# Altium schematic symbol library atmel.SCHLIB: 152 symbols (part 1 of 3)
Pins are listed as number, name and electrical type; pins without a type are passive.

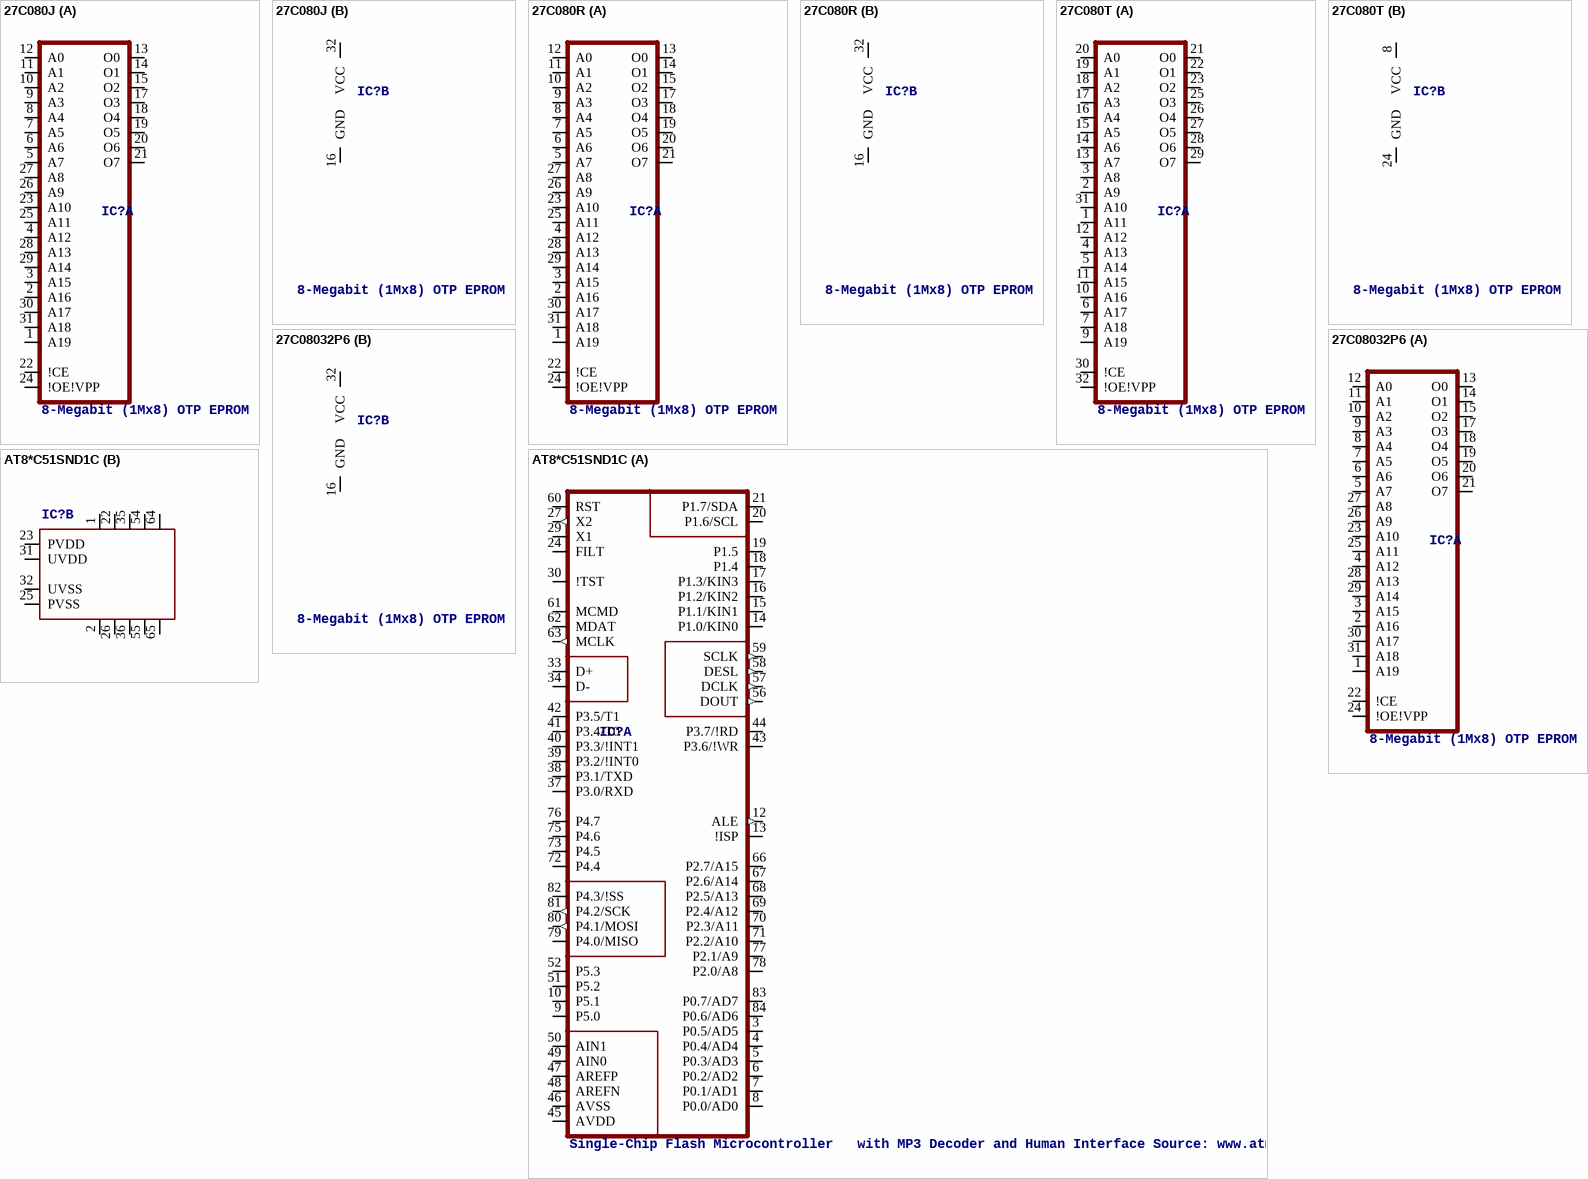
[diagram p0: symbols 27C080J to AT8*C51SND1C]

## 27C080J
designator IC?, comment 8-Megabit (1Mx8) OTP EPROM
MPN: AT27C080-90JU; OC_FARNELL: 1455025; OC_NEWARK: 58M3823
footprint PLCC32R
part A pins: 1 A19, 2 A16, 3 A15, 4 A12, 5 A7, 6 A6, 7 A5, 8 A4, 9 A3, 10 A2, 11 A1, 12 A0, 13 O0 (hiz), 14 O1 (hiz), 15 O2 (hiz), 17 O3 (hiz), 18 O4 (hiz), 19 O5 (hiz), 20 O6 (hiz), 21 O7 (hiz), 22 !CE, 23 A10, 24 !OE!VPP, 25 A11, 26 A9, 27 A8, 28 A13, 29 A14, 30 A17, 31 A18
part B pins: 16 GND (power), 32 VCC (power)

## 27C080R
designator IC?, comment 8-Megabit (1Mx8) OTP EPROM
OC_FARNELL: unknown; OC_NEWARK: unknown
footprint SO32X
part A pins: 1 A19, 2 A16, 3 A15, 4 A12, 5 A7, 6 A6, 7 A5, 8 A4, 9 A3, 10 A2, 11 A1, 12 A0, 13 O0 (hiz), 14 O1 (hiz), 15 O2 (hiz), 17 O3 (hiz), 18 O4 (hiz), 19 O5 (hiz), 20 O6 (hiz), 21 O7 (hiz), 22 !CE, 23 A10, 24 !OE!VPP, 25 A11, 26 A9, 27 A8, 28 A13, 29 A14, 30 A17, 31 A18
part B pins: 16 GND (power), 32 VCC (power)

## 27C080T
designator IC?, comment 8-Megabit (1Mx8) OTP EPROM
OC_FARNELL: unknown; OC_NEWARK: unknown
footprint TSOP32
part A pins: 1 A11, 2 A9, 3 A8, 4 A13, 5 A14, 6 A17, 7 A18, 9 A19, 10 A16, 11 A15, 12 A12, 13 A7, 14 A6, 15 A5, 16 A4, 17 A3, 18 A2, 19 A1, 20 A0, 21 O0 (hiz), 22 O1 (hiz), 23 O2 (hiz), 25 O3 (hiz), 26 O4 (hiz), 27 O5 (hiz), 28 O6 (hiz), 29 O7 (hiz), 30 !CE, 31 A10, 32 !OE!VPP
part B pins: 8 VCC (power), 24 GND (power)

## 27C08032P6
designator IC?, comment 8-Megabit (1Mx8) OTP EPROM
MPN: AT27C080-90PU; OC_FARNELL: 1455026; OC_NEWARK: 58M3824
footprint DIL32
part A pins: 1 A19, 2 A16, 3 A15, 4 A12, 5 A7, 6 A6, 7 A5, 8 A4, 9 A3, 10 A2, 11 A1, 12 A0, 13 O0 (hiz), 14 O1 (hiz), 15 O2 (hiz), 17 O3 (hiz), 18 O4 (hiz), 19 O5 (hiz), 20 O6 (hiz), 21 O7 (hiz), 22 !CE, 23 A10, 24 !OE!VPP, 25 A11, 26 A9, 27 A8, 28 A13, 29 A14, 30 A17, 31 A18
part B pins: 16 GND (power), 32 VCC (power)

## AT8*C51SND1C
designator IC?, comment Single-Chip Flash Microcontroller   with MP3 Decoder and Human Interface Source: www.atmel.com .. doc4109.pdf
OC_FARNELL: unknown; OC_NEWARK: unknown; OC_FARNELL: 1095728
footprint PLCC84
part A pins: 3 P0.5/AD5, 4 P0.4/AD4, 5 P0.3/AD3, 6 P0.2/AD2, 7 P0.1/AD1, 8 P0.0/AD0, 9 P5.0, 10 P5.1, 12 ALE (out), 13 !ISP, 14 P1.0/KIN0, 15 P1.1/KIN1, 16 P1.2/KIN2, 17 P1.3/KIN3, 18 P1.4, 19 P1.5, 20 P1.6/SCL, 21 P1.7/SDA, 24 FILT, 27 X2 (out), 29 X1, 30 !TST, 33 D+, 34 D-, 37 P3.0/RXD, 38 P3.1/TXD, 39 P3.2/!INT0, 40 P3.3/!INT1, 41 P3.4/T0, 42 P3.5/T1, 43 P3.6/!WR, 44 P3.7/!RD, 45 AVDD (power), 46 AVSS (power), 47 AREFP, 48 AREFN, 49 AIN0, 50 AIN1, 51 P5.2, 52 P5.3, 56 DOUT (out), 57 DCLK (out), 58 DESL (out), 59 SCLK (out), 60 RST, 61 MCMD, 62 MDAT, 63 MCLK (out), 66 P2.7/A15, 67 P2.6/A14, 68 P2.5/A13, 69 P2.4/A12, 70 P2.3/A11, 71 P2.2/A10, 72 P4.4, 73 P4.5, 75 P4.6, 76 P4.7, 77 P2.1/A9, 78 P2.0/A8, 79 P4.0/MISO, 80 P4.1/MOSI (out), 81 P4.2/SCK (out), 82 P4.3/!SS, 83 P0.7/AD7, 84 P0.6/AD6
part B pins: 1 VDD@1 (power), 2 VSS@1 (power), 22 VDD@2 (power), 23 PVDD (power), 25 PVSS (power), 26 VSS@2 (power), 31 UVDD (power), 32 UVSS (power), 35 VDD@3 (power), 36 VSS@3 (power), 54 VDD@4 (power), 55 VSS@4 (power), 64 VDD@5 (power), 65 VSS@5 (power)

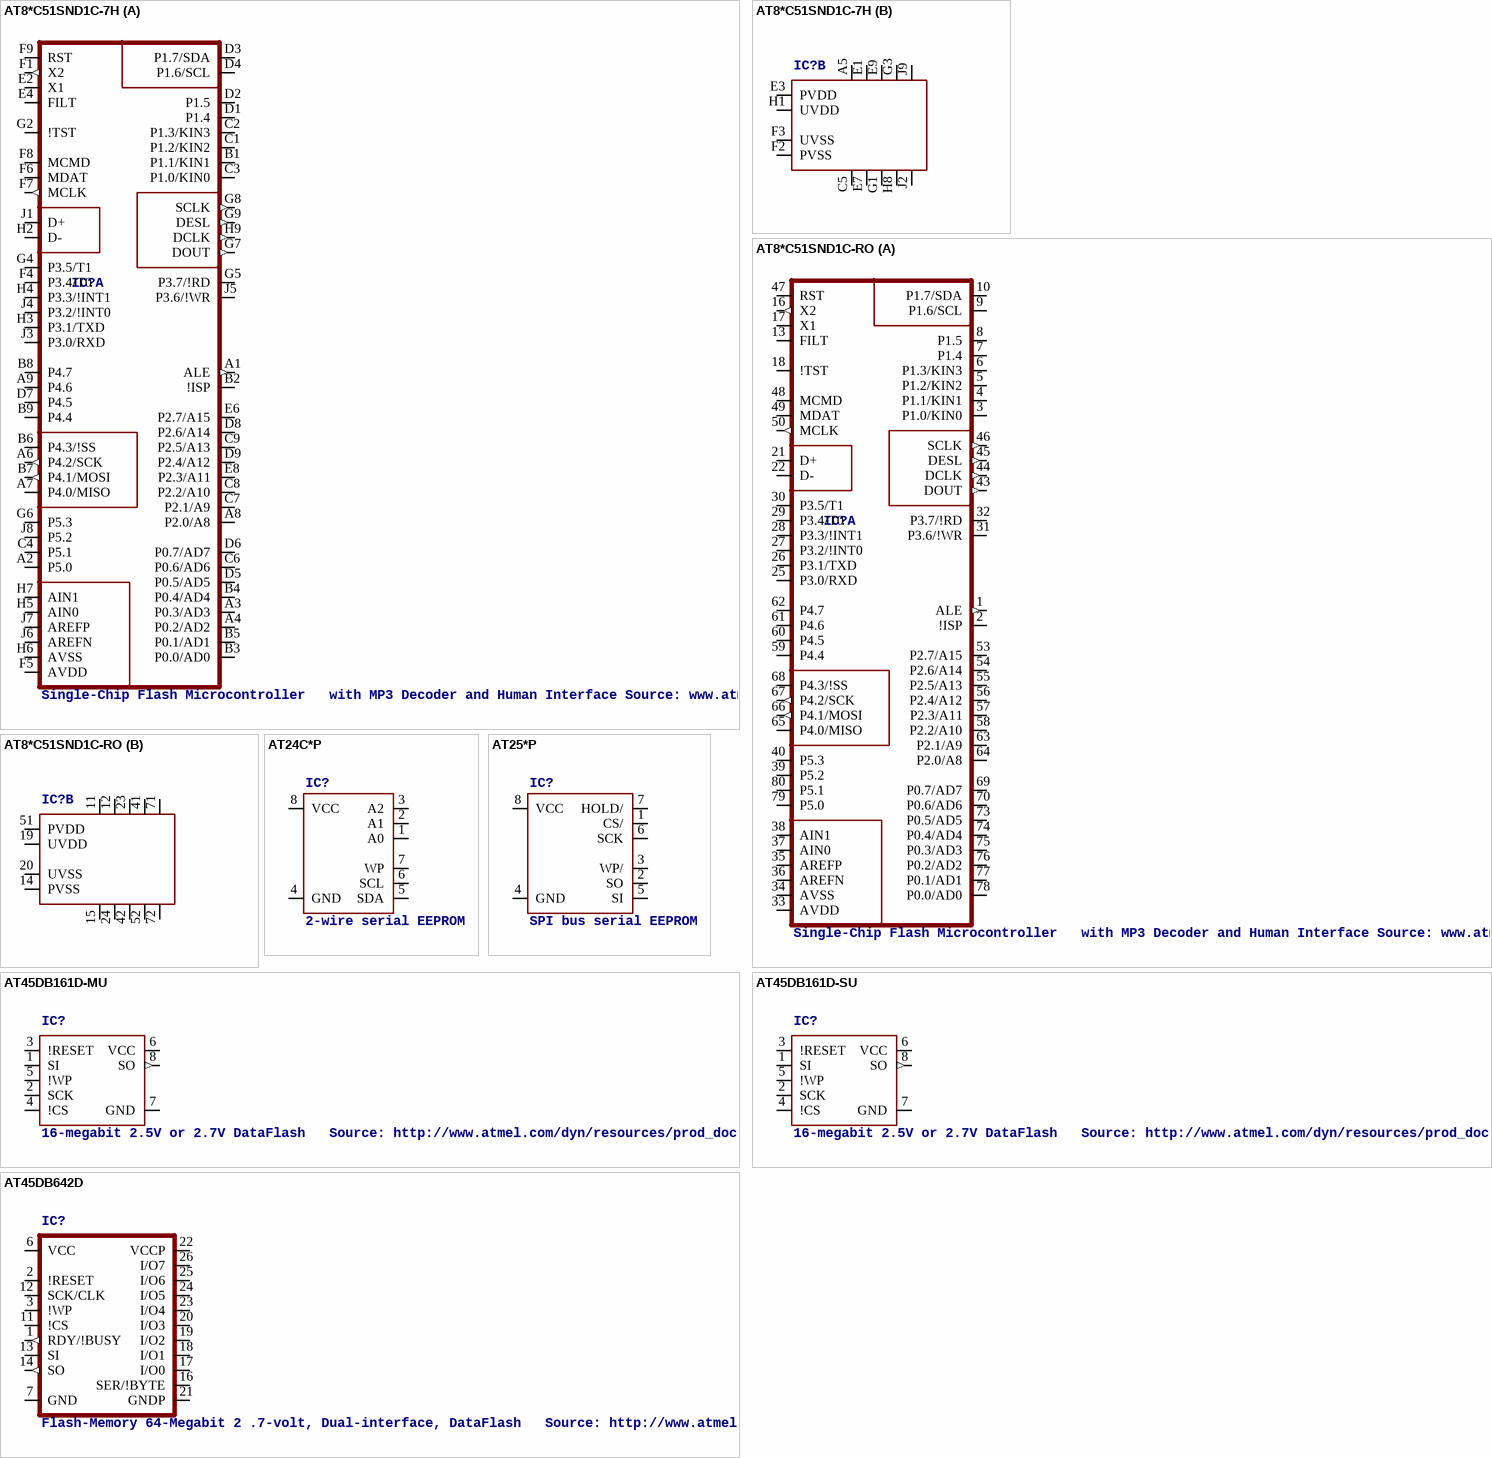
[diagram p1: symbols AT8*C51SND1C-7H to AT45DB642D]

## AT8*C51SND1C-7H
designator IC?, comment Single-Chip Flash Microcontroller   with MP3 Decoder and Human Interface Source: www.atmel.com .. doc4109.pdf
OC_FARNELL: unknown; OC_NEWARK: unknown
footprint BGA81
part A pins: A1 ALE (out), A2 P5.0, A3 P0.3/AD3, A4 P0.2/AD2, A6 P4.2/SCK (out), A7 P4.0/MISO, A8 P2.0/A8, A9 P4.6, B1 P1.1/KIN1, B2 !ISP, B3 P0.0/AD0, B4 P0.4/AD4, B5 P0.1/AD1, B6 P4.3/!SS, B7 P4.1/MOSI (out), B8 P4.7, B9 P4.4, C1 P1.2/KIN2, C2 P1.3/KIN3, C3 P1.0/KIN0, C4 P5.1, C6 P0.6/AD6, C7 P2.1/A9, C8 P2.2/A10, C9 P2.5/A13, D1 P1.4, D2 P1.5, D3 P1.7/SDA, D4 P1.6/SCL, D5 P0.5/AD5, D6 P0.7/AD7, D7 P4.5, D8 P2.6/A14, D9 P2.4/A12, E2 X1, E4 FILT, E6 P2.7/A15, E8 P2.3/A11, F1 X2 (out), F4 P3.4/T0, F5 AVDD (power), F6 MDAT, F7 MCLK (out), F8 MCMD, F9 RST, G2 !TST, G4 P3.5/T1, G5 P3.7/!RD, G6 P5.3, G7 DOUT (out), G8 SCLK (out), G9 DESL (out), H2 D-, H3 P3.1/TXD, H4 P3.3/!INT1, H5 AIN0, H6 AVSS (power), H7 AIN1, H9 DCLK (out), J1 D+, J3 P3.0/RXD, J4 P3.2/!INT0, J5 P3.6/!WR, J6 AREFN, J7 AREFP, J8 P5.2
part B pins: A5 VDD@1 (power), C5 VSS@1 (power), E1 VDD@2 (power), E3 PVDD (power), E7 VSS@2 (power), E9 VDD@3 (power), F2 PVSS (power), F3 UVSS (power), G1 VSS@3 (power), G3 VDD@4 (power), H1 UVDD (power), H8 VSS@4 (power), J2 VSS@5 (power), J9 VDD@5 (power)

## AT8*C51SND1C-RO
designator IC?, comment Single-Chip Flash Microcontroller   with MP3 Decoder and Human Interface Source: www.atmel.com .. doc4109.pdf
OC_FARNELL: unknown; OC_NEWARK: unknown; OC_FARNELL: 1095728
footprint TQFP80
part A pins: 1 ALE (out), 2 !ISP, 3 P1.0/KIN0, 4 P1.1/KIN1, 5 P1.2/KIN2, 6 P1.3/KIN3, 7 P1.4, 8 P1.5, 9 P1.6/SCL, 10 P1.7/SDA, 13 FILT, 16 X2 (out), 17 X1, 18 !TST, 21 D+, 22 D-, 25 P3.0/RXD, 26 P3.1/TXD, 27 P3.2/!INT0, 28 P3.3/!INT1, 29 P3.4/T0, 30 P3.5/T1, 31 P3.6/!WR, 32 P3.7/!RD, 33 AVDD (power), 34 AVSS (power), 35 AREFP, 36 AREFN, 37 AIN0, 38 AIN1, 39 P5.2, 40 P5.3, 43 DOUT (out), 44 DCLK (out), 45 DESL (out), 46 SCLK (out), 47 RST, 48 MCMD, 49 MDAT, 50 MCLK (out), 53 P2.7/A15, 54 P2.6/A14, 55 P2.5/A13, 56 P2.4/A12, 57 P2.3/A11, 58 P2.2/A10, 59 P4.4, 60 P4.5, 61 P4.6, 62 P4.7, 63 P2.1/A9, 64 P2.0/A8, 65 P4.0/MISO, 66 P4.1/MOSI (out), 67 P4.2/SCK (out), 68 P4.3/!SS, 69 P0.7/AD7, 70 P0.6/AD6, 73 P0.5/AD5, 74 P0.4/AD4, 75 P0.3/AD3, 76 P0.2/AD2, 77 P0.1/AD1, 78 P0.0/AD0, 79 P5.0, 80 P5.1
part B pins: 11 VDD@1 (power), 12 VDD@2 (power), 14 PVSS (power), 15 VSS@1 (power), 19 UVDD (power), 20 UVSS (power), 23 VDD@3 (power), 24 VSS@2 (power), 41 VDD@4 (power), 42 VSS@3 (power), 51 PVDD (power), 52 VSS@4 (power), 71 VDD@5 (power), 72 VSS@5 (power)

## AT24C*P
designator IC?, comment 2-wire serial EEPROM
MPN: AT24C1024BW-SH-B; OC_FARNELL: 1362646; OC_NEWARK: 03P2044
footprint DIL08
pins: 1 A0, 2 A1, 3 A2, 4 GND (power), 5 SDA, 6 SCL, 7 WP, 8 VCC (power)

## AT25*P
designator IC?, comment SPI bus serial EEPROM
MPN: CAT25040LI-G; OC_FARNELL: 1718045; OC_NEWARK: 06R0588
footprint DIL08
pins: 1 CS/, 2 SO, 3 WP/, 4 GND (power), 5 SI, 6 SCK, 7 HOLD/, 8 VCC (power)

## AT45DB161D-MU
designator IC?, comment 16-megabit 2.5V or 2.7V DataFlash   Source: http://www.atmel.com/dyn/resources/prod_documents/doc3500.pdf
MPN: AT45DB161D-SU; MF: ATMEL; OC_FARNELL: 1455040
footprint VDFN-8
pins: 1 SI, 2 SCK, 3 !RESET, 4 !CS, 5 !WP, 6 VCC (power), 7 GND (power), 8 SO (out)

## AT45DB161D-SU
designator IC?, comment 16-megabit 2.5V or 2.7V DataFlash   Source: http://www.atmel.com/dyn/resources/prod_documents/doc3500.pdf
MPN: AT45DB161D-SU; MF: ATMEL; OC_FARNELL: 1455040
footprint 8S2
pins: 1 SI, 2 SCK, 3 !RESET, 4 !CS, 5 !WP, 6 VCC (power), 7 GND (power), 8 SO (out)

## AT45DB642D
designator IC?, comment Flash-Memory 64-Megabit 2 .7-volt, Dual-interface, DataFlash   Source: http://www.atmel.com/dyn/resources/prod_documents/doc3542.pdf
MPN: AT45DB642D-TU; OC_FARNELL: 1095799; OC_NEWARK: 51P1801
footprint 28T-TSOP-1
pins: 1 RDY/!BUSY (out), 2 !RESET, 3 !WP, 6 VCC (power), 7 GND (power), 11 !CS, 12 SCK/CLK, 13 SI, 14 SO (out), 16 SER/!BYTE, 17 I/O0, 18 I/O1, 19 I/O2, 20 I/O3, 21 GNDP (power), 22 VCCP (power), 23 I/O4, 24 I/O5, 25 I/O6, 26 I/O7

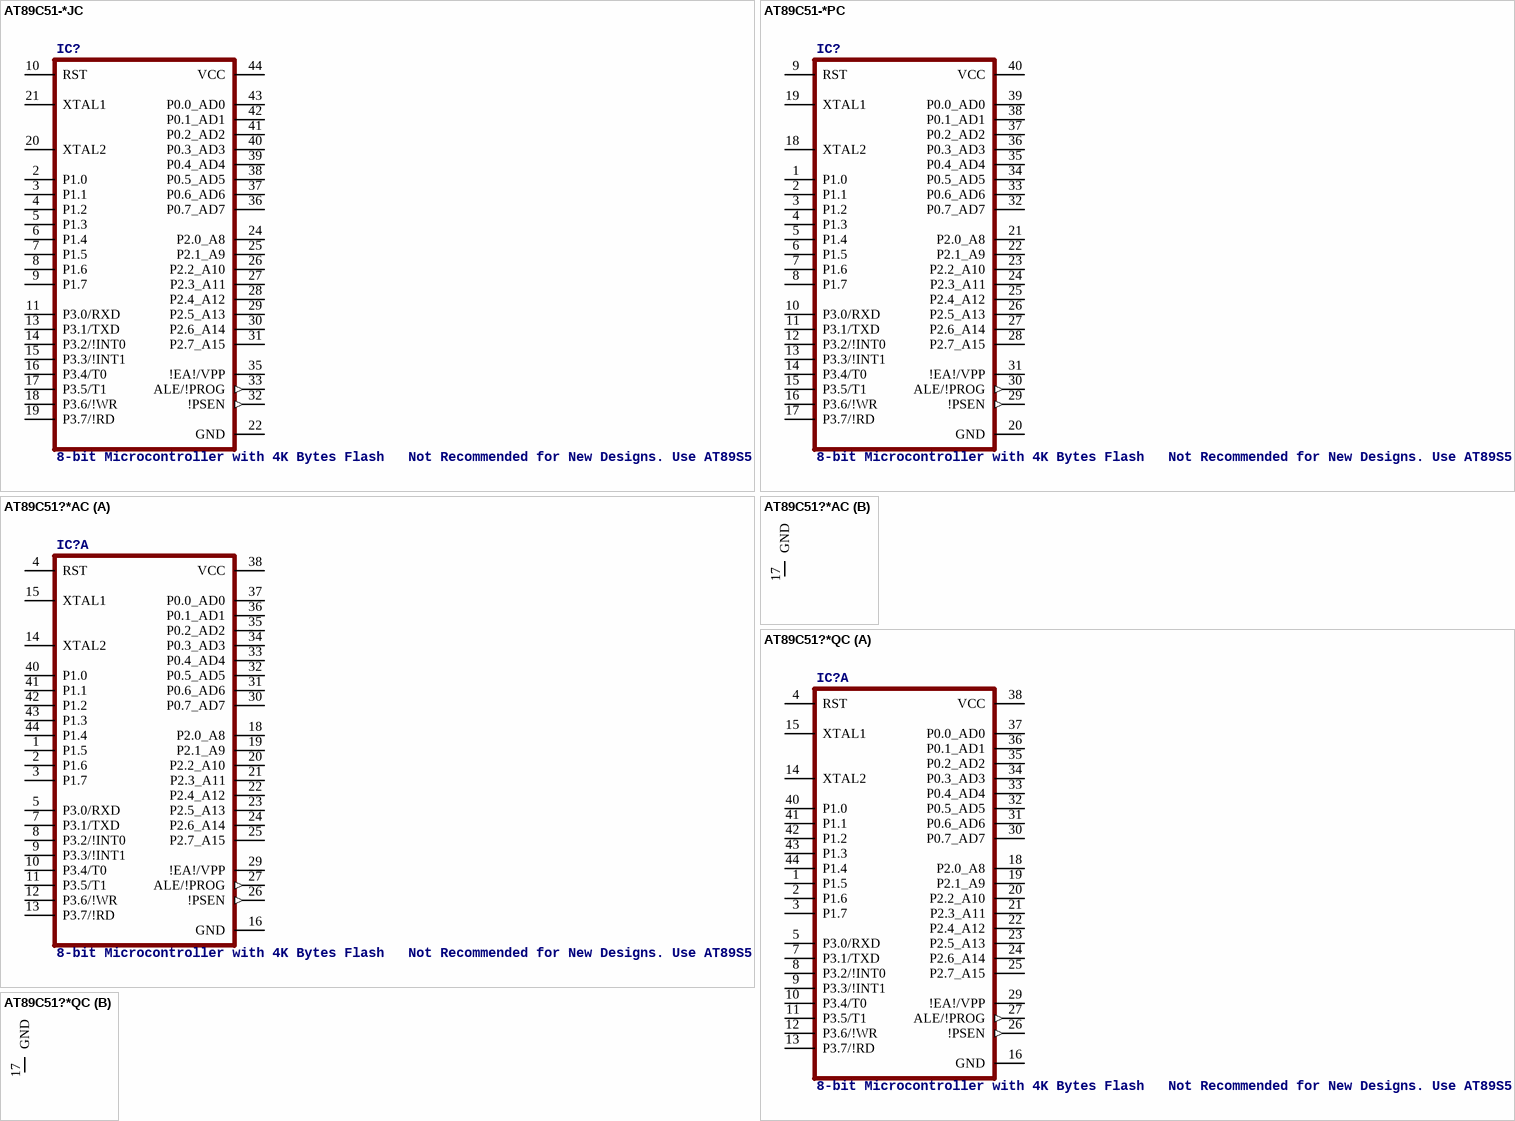
[diagram p2: symbols AT89C51-*JC to AT89C51?*QC]

## AT89C51-*JC
designator IC?, comment 8-bit Microcontroller with 4K Bytes Flash   Not Recommended for New Designs. Use AT89S51. Source: http://www.atmel.com/dyn/resources/prod_documents/doc0265.
MPN: AT89C51ED2-SLSUM; MPN: AT89C51RE2-SLSUM; MPN: AT89C51ED2-RLTUM; OC_FARNELL: 1095722; OC_NEWARK: 78K5790; OC_FARNELL: 1455062; OC_NEWARK: 58M3857; OC_FARNELL: 1095726; OC_NEWARK: 51P1802
footprint PLCC44
pins: 2 P1.0, 3 P1.1, 4 P1.2, 5 P1.3, 6 P1.4, 7 P1.5, 8 P1.6, 9 P1.7, 10 RST, 11 P3.0/RXD, 13 P3.1/TXD, 14 P3.2/!INT0, 15 P3.3/!INT1, 16 P3.4/T0, 17 P3.5/T1, 18 P3.6/!WR, 19 P3.7/!RD, 20 XTAL2, 21 XTAL1, 22 GND (power), 24 P2.0_A8, 25 P2.1_A9, 26 P2.2_A10, 27 P2.3_A11, 28 P2.4_A12, 29 P2.5_A13, 30 P2.6_A14, 31 P2.7_A15, 32 !PSEN (out), 33 ALE/!PROG (out), 35 !EA!/VPP, 36 P0.7_AD7, 37 P0.6_AD6, 38 P0.5_AD5, 39 P0.4_AD4, 40 P0.3_AD3, 41 P0.2_AD2, 42 P0.1_AD1, 43 P0.0_AD0, 44 VCC (power)

## AT89C51-*PC
designator IC?, comment 8-bit Microcontroller with 4K Bytes Flash   Not Recommended for New Designs. Use AT89S51. Source: http://www.atmel.com/dyn/resources/prod_documents/doc0265.
OC_FARNELL: unknown; OC_NEWARK: unknown
footprint DIL40
pins: 1 P1.0, 2 P1.1, 3 P1.2, 4 P1.3, 5 P1.4, 6 P1.5, 7 P1.6, 8 P1.7, 9 RST, 10 P3.0/RXD, 11 P3.1/TXD, 12 P3.2/!INT0, 13 P3.3/!INT1, 14 P3.4/T0, 15 P3.5/T1, 16 P3.6/!WR, 17 P3.7/!RD, 18 XTAL2, 19 XTAL1, 20 GND (power), 21 P2.0_A8, 22 P2.1_A9, 23 P2.2_A10, 24 P2.3_A11, 25 P2.4_A12, 26 P2.5_A13, 27 P2.6_A14, 28 P2.7_A15, 29 !PSEN (out), 30 ALE/!PROG (out), 31 !EA!/VPP, 32 P0.7_AD7, 33 P0.6_AD6, 34 P0.5_AD5, 35 P0.4_AD4, 36 P0.3_AD3, 37 P0.2_AD2, 38 P0.1_AD1, 39 P0.0_AD0, 40 VCC (power)

## AT89C51?*AC
designator IC?, comment 8-bit Microcontroller with 4K Bytes Flash   Not Recommended for New Designs. Use AT89S51. Source: http://www.atmel.com/dyn/resources/prod_documents/doc0265.
OC_FARNELL: unknown; OC_NEWARK: unknown
footprint TQFP44
part A pins: 1 P1.5, 2 P1.6, 3 P1.7, 4 RST, 5 P3.0/RXD, 7 P3.1/TXD, 8 P3.2/!INT0, 9 P3.3/!INT1, 10 P3.4/T0, 11 P3.5/T1, 12 P3.6/!WR, 13 P3.7/!RD, 14 XTAL2, 15 XTAL1, 16 GND (power), 18 P2.0_A8, 19 P2.1_A9, 20 P2.2_A10, 21 P2.3_A11, 22 P2.4_A12, 23 P2.5_A13, 24 P2.6_A14, 25 P2.7_A15, 26 !PSEN (out), 27 ALE/!PROG (out), 29 !EA!/VPP, 30 P0.7_AD7, 31 P0.6_AD6, 32 P0.5_AD5, 33 P0.4_AD4, 34 P0.3_AD3, 35 P0.2_AD2, 36 P0.1_AD1, 37 P0.0_AD0, 38 VCC (power), 40 P1.0, 41 P1.1, 42 P1.2, 43 P1.3, 44 P1.4
part B pins: 17 GND (power)

## AT89C51?*QC
designator IC?, comment 8-bit Microcontroller with 4K Bytes Flash   Not Recommended for New Designs. Use AT89S51. Source: http://www.atmel.com/dyn/resources/prod_documents/doc0265.
OC_FARNELL: unknown; OC_NEWARK: unknown
footprint PQFP44
part A pins: 1 P1.5, 2 P1.6, 3 P1.7, 4 RST, 5 P3.0/RXD, 7 P3.1/TXD, 8 P3.2/!INT0, 9 P3.3/!INT1, 10 P3.4/T0, 11 P3.5/T1, 12 P3.6/!WR, 13 P3.7/!RD, 14 XTAL2, 15 XTAL1, 16 GND (power), 18 P2.0_A8, 19 P2.1_A9, 20 P2.2_A10, 21 P2.3_A11, 22 P2.4_A12, 23 P2.5_A13, 24 P2.6_A14, 25 P2.7_A15, 26 !PSEN (out), 27 ALE/!PROG (out), 29 !EA!/VPP, 30 P0.7_AD7, 31 P0.6_AD6, 32 P0.5_AD5, 33 P0.4_AD4, 34 P0.3_AD3, 35 P0.2_AD2, 36 P0.1_AD1, 37 P0.0_AD0, 38 VCC (power), 40 P1.0, 41 P1.1, 42 P1.2, 43 P1.3, 44 P1.4
part B pins: 17 GND (power)

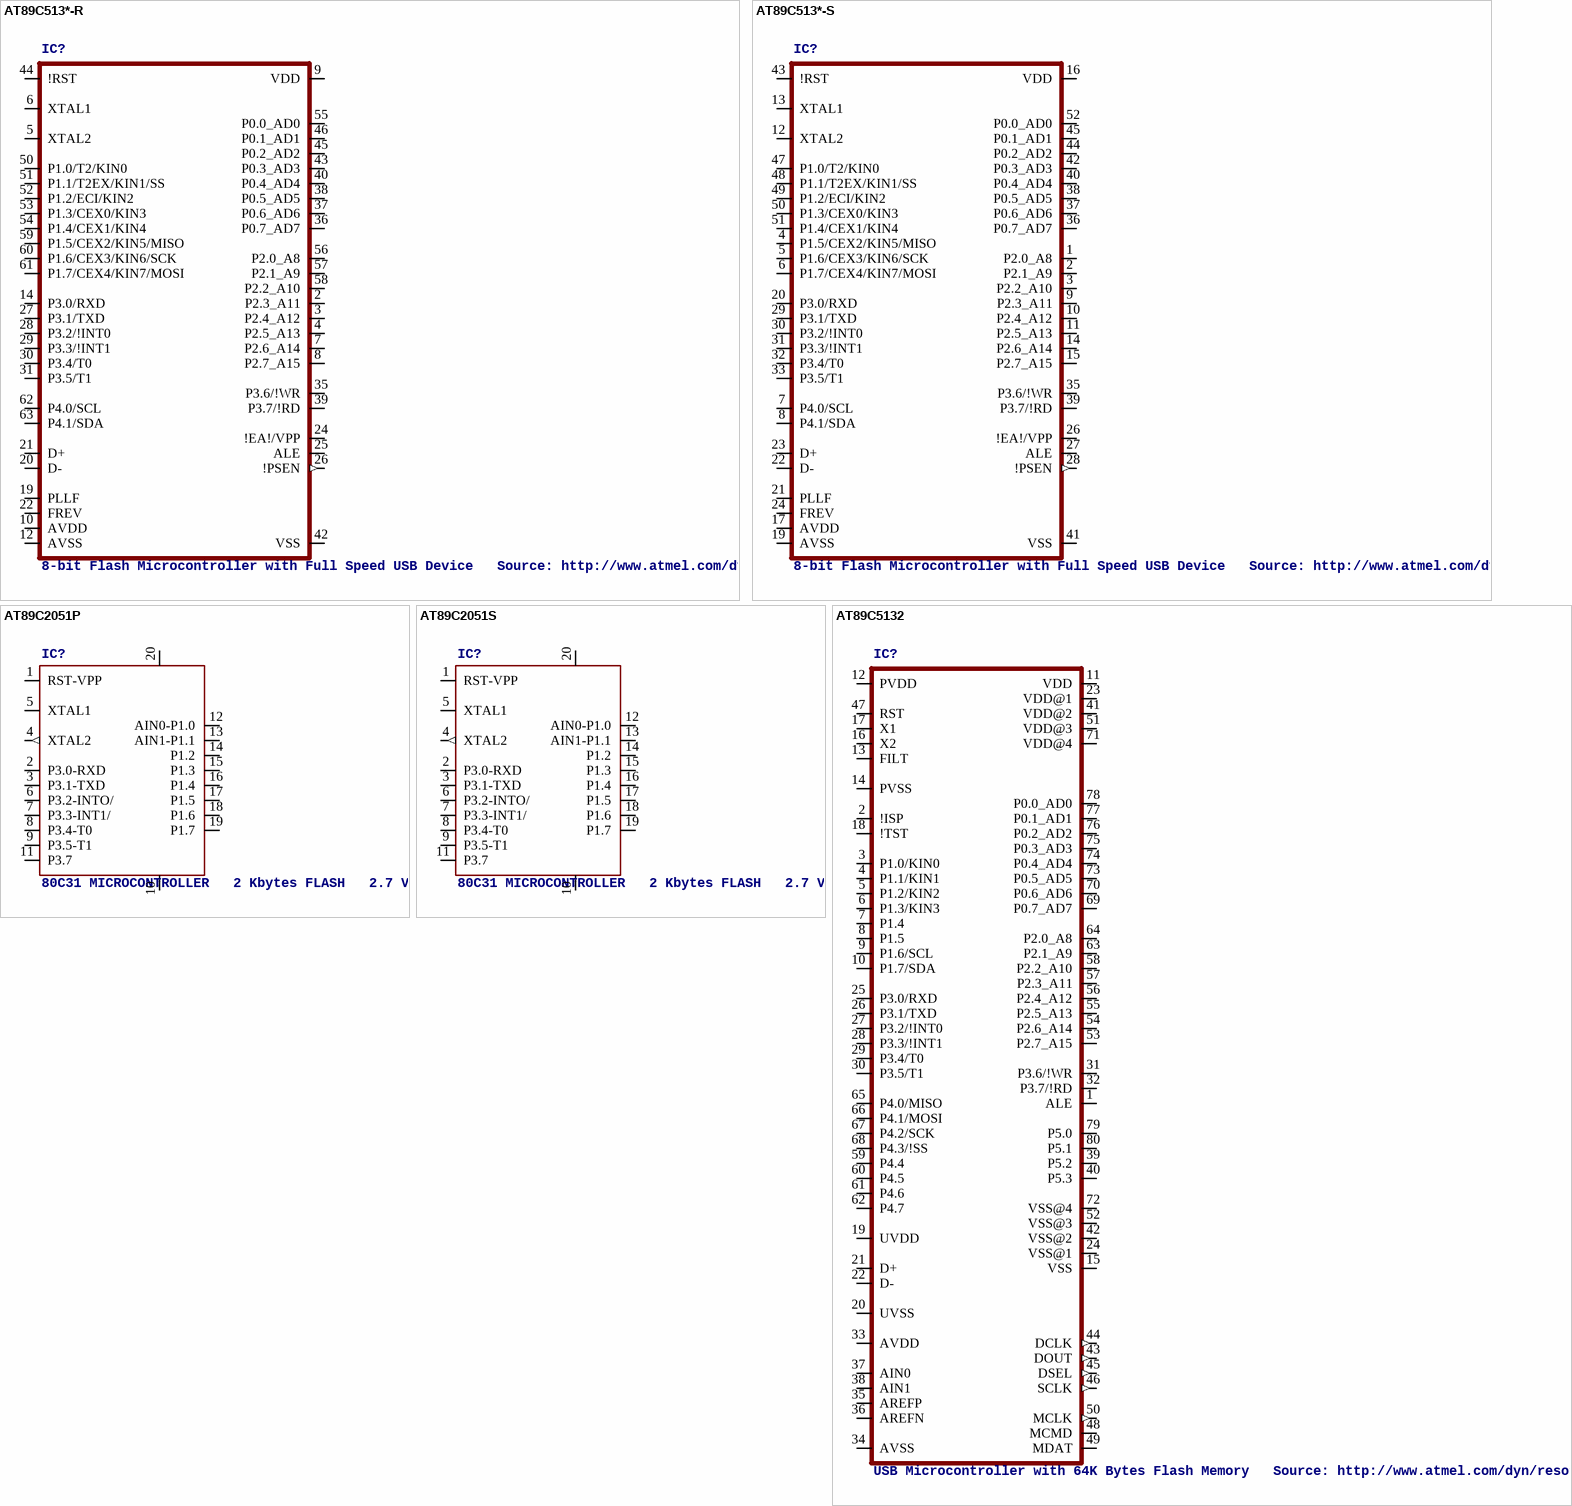
[diagram p3: symbols AT89C513*-R to AT89C5132]

## AT89C513*-R
designator IC?, comment 8-bit Flash Microcontroller with Full Speed USB Device   Source: http://www.atmel.com/dyn/resources/prod_documents/doc4136.pdf   Data sheet mistake: define Packge type pin description for MLF48 but Order Number for QFN32 !?
OC_FARNELL: unknown; OC_NEWARK: unknown
footprint VQFP64
pins: 2 P2.3_A11, 3 P2.4_A12, 4 P2.5_A13, 5 XTAL2, 6 XTAL1, 7 P2.6_A14, 8 P2.7_A15, 9 VDD (power), 10 AVDD (power), 12 AVSS (power), 14 P3.0/RXD, 19 PLLF, 20 D-, 21 D+, 22 FREV, 24 !EA!/VPP, 25 ALE, 26 !PSEN (out), 27 P3.1/TXD, 28 P3.2/!INT0, 29 P3.3/!INT1, 30 P3.4/T0, 31 P3.5/T1, 35 P3.6/!WR, 36 P0.7_AD7, 37 P0.6_AD6, 38 P0.5_AD5, 39 P3.7/!RD, 40 P0.4_AD4, 42 VSS (power), 43 P0.3_AD3, 44 !RST, 45 P0.2_AD2, 46 P0.1_AD1, 50 P1.0/T2/KIN0, 51 P1.1/T2EX/KIN1/SS, 52 P1.2/ECI/KIN2, 53 P1.3/CEX0/KIN3, 54 P1.4/CEX1/KIN4, 55 P0.0_AD0, 56 P2.0_A8, 57 P2.1_A9, 58 P2.2_A10, 59 P1.5/CEX2/KIN5/MISO, 60 P1.6/CEX3/KIN6/SCK, 61 P1.7/CEX4/KIN7/MOSI, 62 P4.0/SCL, 63 P4.1/SDA

## AT89C513*-S
designator IC?, comment 8-bit Flash Microcontroller with Full Speed USB Device   Source: http://www.atmel.com/dyn/resources/prod_documents/doc4136.pdf   Data sheet mistake: define Packge type pin description for MLF48 but Order Number for QFN32 !?
MPN: AT89C5131A-S3SUM; OC_FARNELL: unknown; OC_NEWARK: unknown; OC_FARNELL: 1095721; OC_NEWARK: 96K6570
footprint PLCC52
pins: 1 P2.0_A8, 2 P2.1_A9, 3 P2.2_A10, 4 P1.5/CEX2/KIN5/MISO, 5 P1.6/CEX3/KIN6/SCK, 6 P1.7/CEX4/KIN7/MOSI, 7 P4.0/SCL, 8 P4.1/SDA, 9 P2.3_A11, 10 P2.4_A12, 11 P2.5_A13, 12 XTAL2, 13 XTAL1, 14 P2.6_A14, 15 P2.7_A15, 16 VDD (power), 17 AVDD (power), 19 AVSS (power), 20 P3.0/RXD, 21 PLLF, 22 D-, 23 D+, 24 FREV, 26 !EA!/VPP, 27 ALE, 28 !PSEN (out), 29 P3.1/TXD, 30 P3.2/!INT0, 31 P3.3/!INT1, 32 P3.4/T0, 33 P3.5/T1, 35 P3.6/!WR, 36 P0.7_AD7, 37 P0.6_AD6, 38 P0.5_AD5, 39 P3.7/!RD, 40 P0.4_AD4, 41 VSS (power), 42 P0.3_AD3, 43 !RST, 44 P0.2_AD2, 45 P0.1_AD1, 47 P1.0/T2/KIN0, 48 P1.1/T2EX/KIN1/SS, 49 P1.2/ECI/KIN2, 50 P1.3/CEX0/KIN3, 51 P1.4/CEX1/KIN4, 52 P0.0_AD0

## AT89C2051P
designator IC?, comment 80C31 MICROCONTROLLER   2 Kbytes FLASH   2.7 V
MPN: AT89C2051-12PU; OC_FARNELL: 1699389; OC_NEWARK: 80P3687
footprint DIL20
pins: 1 RST-VPP, 2 P3.0-RXD, 3 P3.1-TXD, 4 XTAL2 (out), 5 XTAL1, 6 P3.2-INTO/, 7 P3.3-INT1/, 8 P3.4-T0, 9 P3.5-T1, 10 GND (power), 11 P3.7, 12 AIN0-P1.0, 13 AIN1-P1.1, 14 P1.2, 15 P1.3, 16 P1.4, 17 P1.5, 18 P1.6, 19 P1.7, 20 VCC (power)

## AT89C2051S
designator IC?, comment 80C31 MICROCONTROLLER   2 Kbytes FLASH   2.7 V
MPN: AT89C2051-12SU; OC_FARNELL: 1699390; OC_NEWARK: 80P3688
footprint SOIC20S
pins: 1 RST-VPP, 2 P3.0-RXD, 3 P3.1-TXD, 4 XTAL2 (out), 5 XTAL1, 6 P3.2-INTO/, 7 P3.3-INT1/, 8 P3.4-T0, 9 P3.5-T1, 10 GND (power), 11 P3.7, 12 AIN0-P1.0, 13 AIN1-P1.1, 14 P1.2, 15 P1.3, 16 P1.4, 17 P1.5, 18 P1.6, 19 P1.7, 20 VCC (power)

## AT89C5132
designator IC?, comment USB Microcontroller with 64K Bytes Flash Memory   Source: http://www.atmel.com/dyn/resources/prod_documents/doc4173.pdf
OC_FARNELL: unknown; OC_NEWARK: unknown
footprint TQFP80
pins: 1 ALE, 2 !ISP, 3 P1.0/KIN0, 4 P1.1/KIN1, 5 P1.2/KIN2, 6 P1.3/KIN3, 7 P1.4, 8 P1.5, 9 P1.6/SCL, 10 P1.7/SDA, 11 VDD (power), 12 PVDD (power), 13 FILT, 14 PVSS (power), 15 VSS (power), 16 X2, 17 X1, 18 !TST, 19 UVDD (power), 20 UVSS (power), 21 D+, 22 D-, 23 VDD@1 (power), 24 VSS@1 (power), 25 P3.0/RXD, 26 P3.1/TXD, 27 P3.2/!INT0, 28 P3.3/!INT1, 29 P3.4/T0, 30 P3.5/T1, 31 P3.6/!WR, 32 P3.7/!RD, 33 AVDD (power), 34 AVSS (power), 35 AREFP, 36 AREFN, 37 AIN0, 38 AIN1, 39 P5.2, 40 P5.3, 41 VDD@2 (power), 42 VSS@2 (power), 43 DOUT (out), 44 DCLK (out), 45 DSEL (out), 46 SCLK (out), 47 RST, 48 MCMD, 49 MDAT, 50 MCLK (out), 51 VDD@3 (power), 52 VSS@3 (power), 53 P2.7_A15, 54 P2.6_A14, 55 P2.5_A13, 56 P2.4_A12, 57 P2.3_A11, 58 P2.2_A10, 59 P4.4, 60 P4.5, 61 P4.6, 62 P4.7, 63 P2.1_A9, 64 P2.0_A8, 65 P4.0/MISO, 66 P4.1/MOSI, 67 P4.2/SCK, 68 P4.3/!SS, 69 P0.7_AD7, 70 P0.6_AD6, 71 VDD@4 (power), 72 VSS@4 (power), 73 P0.5_AD5, 74 P0.4_AD4, 75 P0.3_AD3, 76 P0.2_AD2, 77 P0.1_AD1, 78 P0.0_AD0, 79 P5.0, 80 P5.1

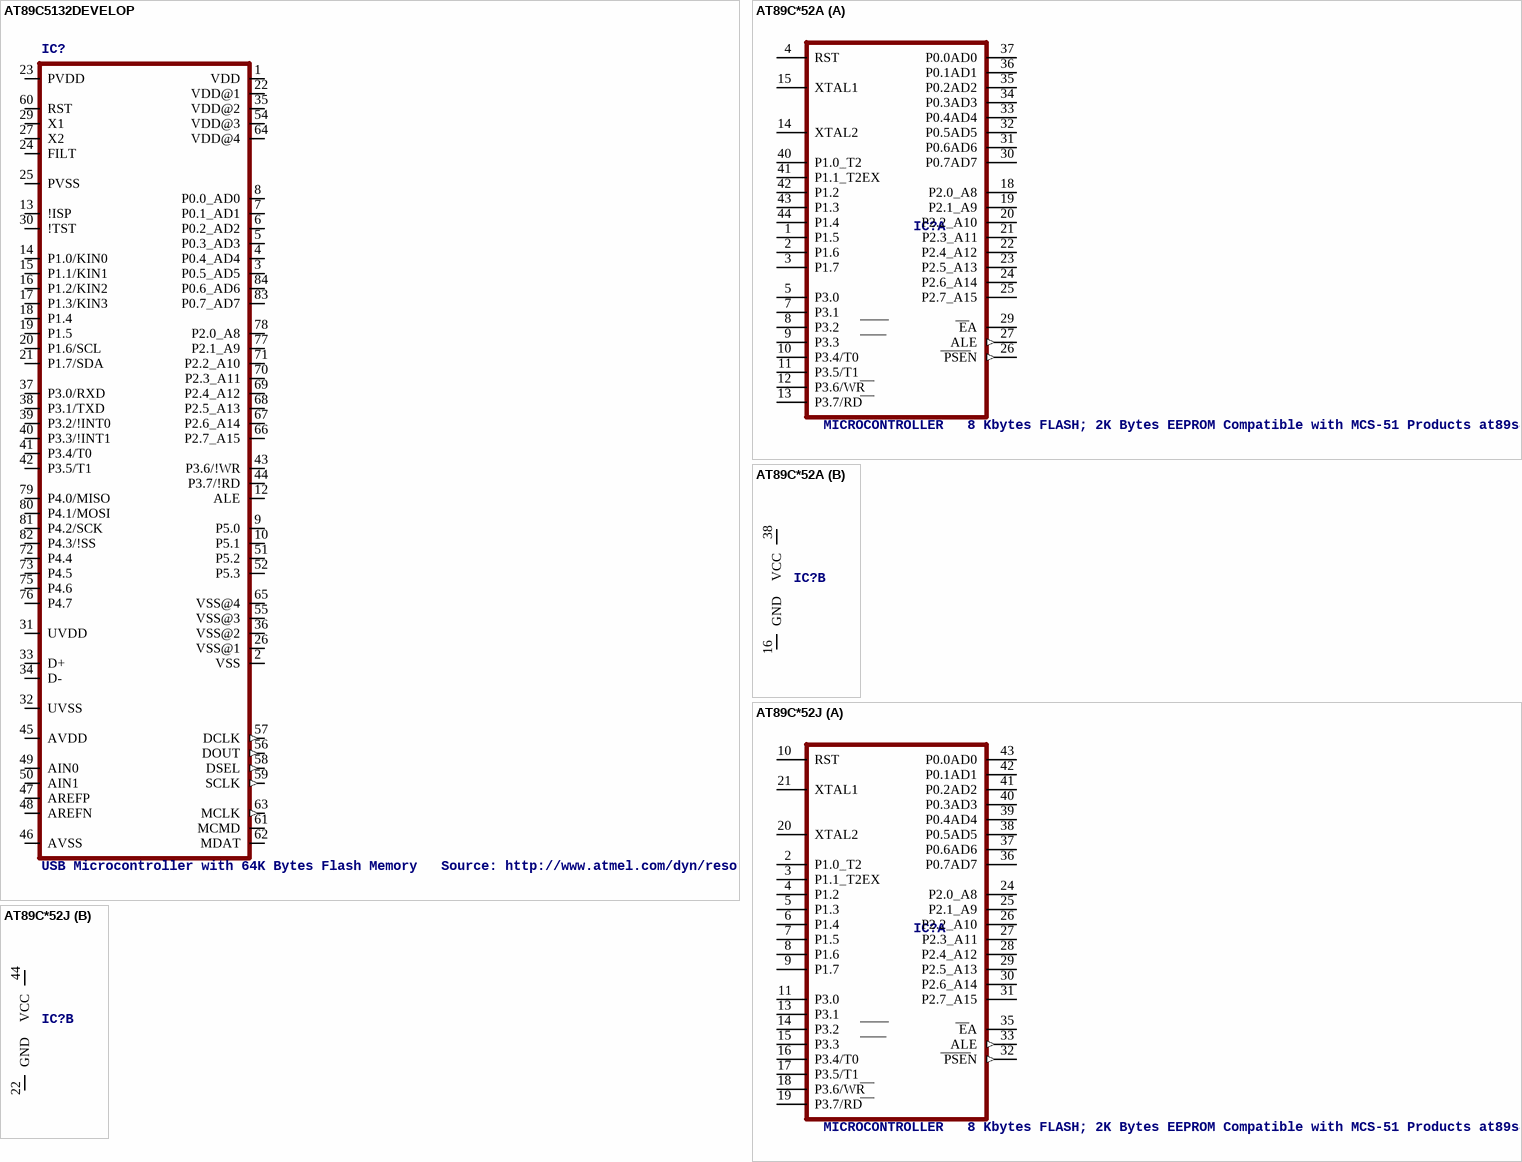
[diagram p4: symbols AT89C5132DEVELOP to AT89C*52J]

## AT89C5132DEVELOP
designator IC?, comment USB Microcontroller with 64K Bytes Flash Memory   Source: http://www.atmel.com/dyn/resources/prod_documents/doc4173.pdf
OC_FARNELL: unknown; OC_NEWARK: unknown
footprint PLCC84
pins: 1 VDD (power), 2 VSS (power), 3 P0.5_AD5, 4 P0.4_AD4, 5 P0.3_AD3, 6 P0.2_AD2, 7 P0.1_AD1, 8 P0.0_AD0, 9 P5.0, 10 P5.1, 12 ALE, 13 !ISP, 14 P1.0/KIN0, 15 P1.1/KIN1, 16 P1.2/KIN2, 17 P1.3/KIN3, 18 P1.4, 19 P1.5, 20 P1.6/SCL, 21 P1.7/SDA, 22 VDD@1 (power), 23 PVDD (power), 24 FILT, 25 PVSS (power), 26 VSS@1 (power), 27 X2, 29 X1, 30 !TST, 31 UVDD (power), 32 UVSS (power), 33 D+, 34 D-, 35 VDD@2 (power), 36 VSS@2 (power), 37 P3.0/RXD, 38 P3.1/TXD, 39 P3.2/!INT0, 40 P3.3/!INT1, 41 P3.4/T0, 42 P3.5/T1, 43 P3.6/!WR, 44 P3.7/!RD, 45 AVDD (power), 46 AVSS (power), 47 AREFP, 48 AREFN, 49 AIN0, 50 AIN1, 51 P5.2, 52 P5.3, 54 VDD@3 (power), 55 VSS@3 (power), 56 DOUT (out), 57 DCLK (out), 58 DSEL (out), 59 SCLK (out), 60 RST, 61 MCMD, 62 MDAT, 63 MCLK (out), 64 VDD@4 (power), 65 VSS@4 (power), 66 P2.7_A15, 67 P2.6_A14, 68 P2.5_A13, 69 P2.4_A12, 70 P2.3_A11, 71 P2.2_A10, 72 P4.4, 73 P4.5, 75 P4.6, 76 P4.7, 77 P2.1_A9, 78 P2.0_A8, 79 P4.0/MISO, 80 P4.1/MOSI, 81 P4.2/SCK, 82 P4.3/!SS, 83 P0.7_AD7, 84 P0.6_AD6

## AT89C*52A
designator IC?, comment MICROCONTROLLER   8 Kbytes FLASH; 2K Bytes EEPROM Compatible with MCS-51 Products at89s8252.pdf
OC_FARNELL: unknown; OC_NEWARK: unknown
footprint TQFP44
part A pins: 1 P1.5, 2 P1.6, 3 P1.7, 4 RST, 5 P3.0, 7 P3.1, 8 P3.2, 9 P3.3, 10 P3.4/T0, 11 P3.5/T1, 12 P3.6/WR, 13 P3.7/RD, 14 XTAL2, 15 XTAL1, 18 P2.0_A8, 19 P2.1_A9, 20 P2.2_A10, 21 P2.3_A11, 22 P2.4_A12, 23 P2.5_A13, 24 P2.6_A14, 25 P2.7_A15, 26 PSEN (out), 27 ALE (out), 29 EA, 30 P0.7AD7, 31 P0.6AD6, 32 P0.5AD5, 33 P0.4AD4, 34 P0.3AD3, 35 P0.2AD2, 36 P0.1AD1, 37 P0.0AD0, 40 P1.0_T2, 41 P1.1_T2EX, 42 P1.2, 43 P1.3, 44 P1.4
part B pins: 16 GND (power), 38 VCC (power)

## AT89C*52J
designator IC?, comment MICROCONTROLLER   8 Kbytes FLASH; 2K Bytes EEPROM Compatible with MCS-51 Products at89s8252.pdf
OC_FARNELL: unknown; OC_NEWARK: unknown
footprint PLCC44
part A pins: 2 P1.0_T2, 3 P1.1_T2EX, 4 P1.2, 5 P1.3, 6 P1.4, 7 P1.5, 8 P1.6, 9 P1.7, 10 RST, 11 P3.0, 13 P3.1, 14 P3.2, 15 P3.3, 16 P3.4/T0, 17 P3.5/T1, 18 P3.6/WR, 19 P3.7/RD, 20 XTAL2, 21 XTAL1, 24 P2.0_A8, 25 P2.1_A9, 26 P2.2_A10, 27 P2.3_A11, 28 P2.4_A12, 29 P2.5_A13, 30 P2.6_A14, 31 P2.7_A15, 32 PSEN (out), 33 ALE (out), 35 EA, 36 P0.7AD7, 37 P0.6AD6, 38 P0.5AD5, 39 P0.4AD4, 40 P0.3AD3, 41 P0.2AD2, 42 P0.1AD1, 43 P0.0AD0
part B pins: 22 GND (power), 44 VCC (power)

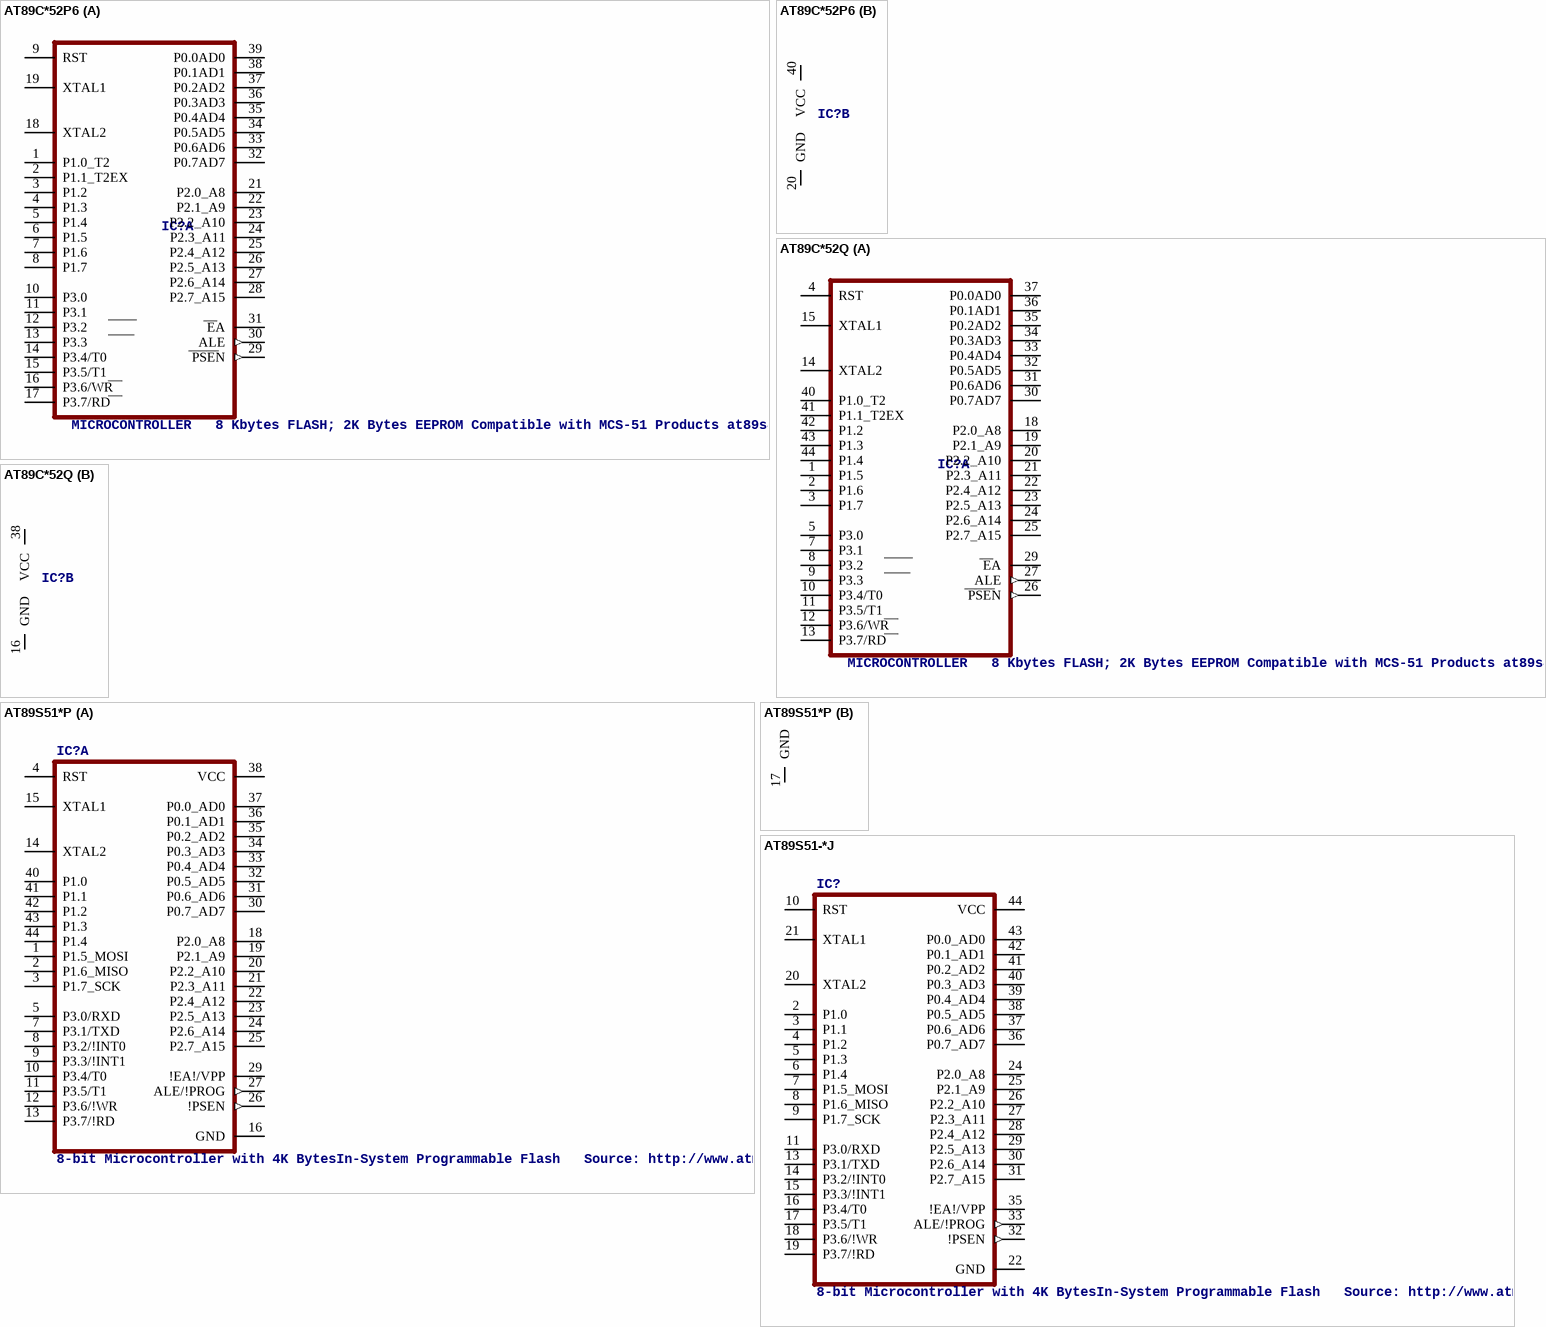
[diagram p5: symbols AT89C*52P6 to AT89S51-*J]

## AT89C*52P6
designator IC?, comment MICROCONTROLLER   8 Kbytes FLASH; 2K Bytes EEPROM Compatible with MCS-51 Products at89s8252.pdf
OC_FARNELL: unknown; OC_NEWARK: unknown
footprint DIL40
part A pins: 1 P1.0_T2, 2 P1.1_T2EX, 3 P1.2, 4 P1.3, 5 P1.4, 6 P1.5, 7 P1.6, 8 P1.7, 9 RST, 10 P3.0, 11 P3.1, 12 P3.2, 13 P3.3, 14 P3.4/T0, 15 P3.5/T1, 16 P3.6/WR, 17 P3.7/RD, 18 XTAL2, 19 XTAL1, 21 P2.0_A8, 22 P2.1_A9, 23 P2.2_A10, 24 P2.3_A11, 25 P2.4_A12, 26 P2.5_A13, 27 P2.6_A14, 28 P2.7_A15, 29 PSEN (out), 30 ALE (out), 31 EA, 32 P0.7AD7, 33 P0.6AD6, 34 P0.5AD5, 35 P0.4AD4, 36 P0.3AD3, 37 P0.2AD2, 38 P0.1AD1, 39 P0.0AD0
part B pins: 20 GND (power), 40 VCC (power)

## AT89C*52Q
designator IC?, comment MICROCONTROLLER   8 Kbytes FLASH; 2K Bytes EEPROM Compatible with MCS-51 Products at89s8252.pdf
OC_FARNELL: unknown; OC_NEWARK: unknown
footprint PQFP44
part A pins: 1 P1.5, 2 P1.6, 3 P1.7, 4 RST, 5 P3.0, 7 P3.1, 8 P3.2, 9 P3.3, 10 P3.4/T0, 11 P3.5/T1, 12 P3.6/WR, 13 P3.7/RD, 14 XTAL2, 15 XTAL1, 18 P2.0_A8, 19 P2.1_A9, 20 P2.2_A10, 21 P2.3_A11, 22 P2.4_A12, 23 P2.5_A13, 24 P2.6_A14, 25 P2.7_A15, 26 PSEN (out), 27 ALE (out), 29 EA, 30 P0.7AD7, 31 P0.6AD6, 32 P0.5AD5, 33 P0.4AD4, 34 P0.3AD3, 35 P0.2AD2, 36 P0.1AD1, 37 P0.0AD0, 40 P1.0_T2, 41 P1.1_T2EX, 42 P1.2, 43 P1.3, 44 P1.4
part B pins: 16 GND (power), 38 VCC (power)

## AT89S51*P
designator IC?, comment 8-bit Microcontroller with 4K BytesIn-System Programmable Flash   Source: http://www.atmel.com/dyn/resources/prod_documents/doc2487.pdf
OC_FARNELL: unknown; OC_NEWARK: unknown
footprint TQFP44
part A pins: 1 P1.5_MOSI, 2 P1.6_MISO, 3 P1.7_SCK, 4 RST, 5 P3.0/RXD, 7 P3.1/TXD, 8 P3.2/!INT0, 9 P3.3/!INT1, 10 P3.4/T0, 11 P3.5/T1, 12 P3.6/!WR, 13 P3.7/!RD, 14 XTAL2, 15 XTAL1, 16 GND (power), 18 P2.0_A8, 19 P2.1_A9, 20 P2.2_A10, 21 P2.3_A11, 22 P2.4_A12, 23 P2.5_A13, 24 P2.6_A14, 25 P2.7_A15, 26 !PSEN (out), 27 ALE/!PROG (out), 29 !EA!/VPP, 30 P0.7_AD7, 31 P0.6_AD6, 32 P0.5_AD5, 33 P0.4_AD4, 34 P0.3_AD3, 35 P0.2_AD2, 36 P0.1_AD1, 37 P0.0_AD0, 38 VCC (power), 40 P1.0, 41 P1.1, 42 P1.2, 43 P1.3, 44 P1.4
part B pins: 17 GND (power)

## AT89S51-*J
designator IC?, comment 8-bit Microcontroller with 4K BytesIn-System Programmable Flash   Source: http://www.atmel.com/dyn/resources/prod_documents/doc2487.pdf
MPN: AT89S51-24JU; OC_FARNELL: 1095738; OC_NEWARK: 96K6577; OC_NEWARK: unknown
footprint PLCC44
pins: 2 P1.0, 3 P1.1, 4 P1.2, 5 P1.3, 6 P1.4, 7 P1.5_MOSI, 8 P1.6_MISO, 9 P1.7_SCK, 10 RST, 11 P3.0/RXD, 13 P3.1/TXD, 14 P3.2/!INT0, 15 P3.3/!INT1, 16 P3.4/T0, 17 P3.5/T1, 18 P3.6/!WR, 19 P3.7/!RD, 20 XTAL2, 21 XTAL1, 22 GND (power), 24 P2.0_A8, 25 P2.1_A9, 26 P2.2_A10, 27 P2.3_A11, 28 P2.4_A12, 29 P2.5_A13, 30 P2.6_A14, 31 P2.7_A15, 32 !PSEN (out), 33 ALE/!PROG (out), 35 !EA!/VPP, 36 P0.7_AD7, 37 P0.6_AD6, 38 P0.5_AD5, 39 P0.4_AD4, 40 P0.3_AD3, 41 P0.2_AD2, 42 P0.1_AD1, 43 P0.0_AD0, 44 VCC (power)

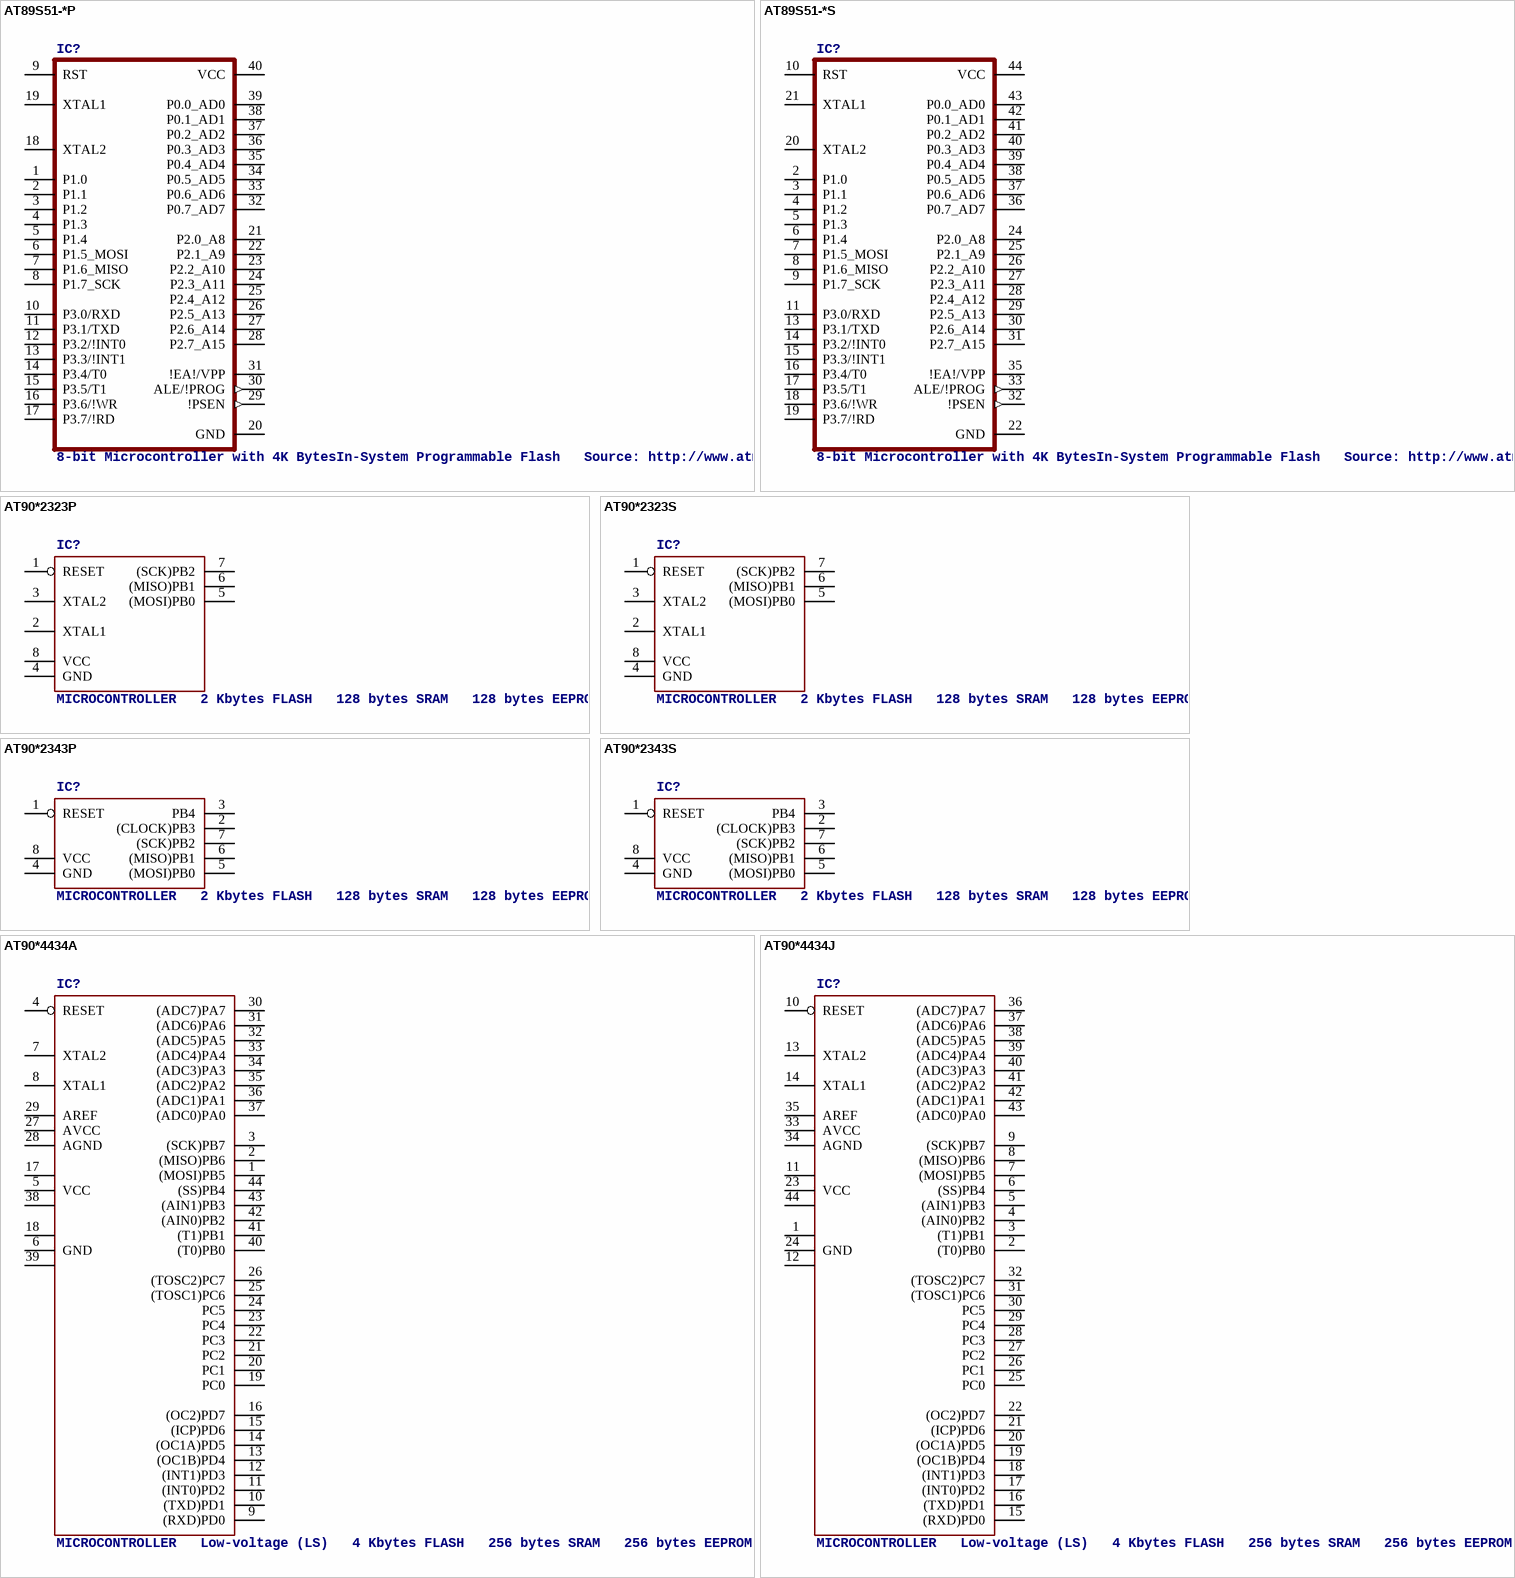
[diagram p6: symbols AT89S51-*P to AT90*4434J]

## AT89S51-*P
designator IC?, comment 8-bit Microcontroller with 4K BytesIn-System Programmable Flash   Source: http://www.atmel.com/dyn/resources/prod_documents/doc2487.pdf
MPN: AT89S51-24PU; OC_FARNELL: 1095739; OC_NEWARK: 96K6578
footprint DIL40
pins: 1 P1.0, 2 P1.1, 3 P1.2, 4 P1.3, 5 P1.4, 6 P1.5_MOSI, 7 P1.6_MISO, 8 P1.7_SCK, 9 RST, 10 P3.0/RXD, 11 P3.1/TXD, 12 P3.2/!INT0, 13 P3.3/!INT1, 14 P3.4/T0, 15 P3.5/T1, 16 P3.6/!WR, 17 P3.7/!RD, 18 XTAL2, 19 XTAL1, 20 GND (power), 21 P2.0_A8, 22 P2.1_A9, 23 P2.2_A10, 24 P2.3_A11, 25 P2.4_A12, 26 P2.5_A13, 27 P2.6_A14, 28 P2.7_A15, 29 !PSEN (out), 30 ALE/!PROG (out), 31 !EA!/VPP, 32 P0.7_AD7, 33 P0.6_AD6, 34 P0.5_AD5, 35 P0.4_AD4, 36 P0.3_AD3, 37 P0.2_AD2, 38 P0.1_AD1, 39 P0.0_AD0, 40 VCC (power)

## AT89S51-*S
designator IC?, comment 8-bit Microcontroller with 4K BytesIn-System Programmable Flash   Source: http://www.atmel.com/dyn/resources/prod_documents/doc2487.pdf
OC_FARNELL: unknown; OC_NEWARK: unknown
footprint S44
pins: 2 P1.0, 3 P1.1, 4 P1.2, 5 P1.3, 6 P1.4, 7 P1.5_MOSI, 8 P1.6_MISO, 9 P1.7_SCK, 10 RST, 11 P3.0/RXD, 13 P3.1/TXD, 14 P3.2/!INT0, 15 P3.3/!INT1, 16 P3.4/T0, 17 P3.5/T1, 18 P3.6/!WR, 19 P3.7/!RD, 20 XTAL2, 21 XTAL1, 22 GND (power), 24 P2.0_A8, 25 P2.1_A9, 26 P2.2_A10, 27 P2.3_A11, 28 P2.4_A12, 29 P2.5_A13, 30 P2.6_A14, 31 P2.7_A15, 32 !PSEN (out), 33 ALE/!PROG (out), 35 !EA!/VPP, 36 P0.7_AD7, 37 P0.6_AD6, 38 P0.5_AD5, 39 P0.4_AD4, 40 P0.3_AD3, 41 P0.2_AD2, 42 P0.1_AD1, 43 P0.0_AD0, 44 VCC (power)

## AT90*2323P
designator IC?, comment MICROCONTROLLER   2 Kbytes FLASH   128 bytes SRAM   128 bytes EEPROM
OC_FARNELL: unknown; OC_NEWARK: unknown
footprint DIL08
pins: 1 RESET, 2 XTAL1, 3 XTAL2, 4 GND (power), 5 (MOSI)PB0, 6 (MISO)PB1, 7 (SCK)PB2, 8 VCC (power)

## AT90*2323S
designator IC?, comment MICROCONTROLLER   2 Kbytes FLASH   128 bytes SRAM   128 bytes EEPROM
OC_FARNELL: unknown; OC_NEWARK: unknown
footprint SOIC8
pins: 1 RESET, 2 XTAL1, 3 XTAL2, 4 GND (power), 5 (MOSI)PB0, 6 (MISO)PB1, 7 (SCK)PB2, 8 VCC (power)

## AT90*2343P
designator IC?, comment MICROCONTROLLER   2 Kbytes FLASH   128 bytes SRAM   128 bytes EEPROM
OC_FARNELL: unknown; OC_NEWARK: unknown
footprint DIL08
pins: 1 RESET, 2 (CLOCK)PB3, 3 PB4, 4 GND (power), 5 (MOSI)PB0, 6 (MISO)PB1, 7 (SCK)PB2, 8 VCC (power)

## AT90*2343S
designator IC?, comment MICROCONTROLLER   2 Kbytes FLASH   128 bytes SRAM   128 bytes EEPROM
OC_FARNELL: unknown; OC_NEWARK: unknown
footprint SOIC8
pins: 1 RESET, 2 (CLOCK)PB3, 3 PB4, 4 GND (power), 5 (MOSI)PB0, 6 (MISO)PB1, 7 (SCK)PB2, 8 VCC (power)

## AT90*4434A
designator IC?, comment MICROCONTROLLER   Low-voltage (LS)   4 Kbytes FLASH   256 bytes SRAM   256 bytes EEPROM   UART   8-channel 10 bit ADC
OC_FARNELL: unknown; OC_NEWARK: unknown
footprint TQFP44
pins: 1 (MOSI)PB5, 2 (MISO)PB6, 3 (SCK)PB7, 4 RESET, 5 VCC (power), 6 GND (power), 7 XTAL2, 8 XTAL1, 9 (RXD)PD0, 10 (TXD)PD1, 11 (INT0)PD2, 12 (INT1)PD3, 13 (OC1B)PD4, 14 (OC1A)PD5, 15 (ICP)PD6, 16 (OC2)PD7, 17 VCC1 (power), 18 GND1 (power), 19 PC0, 20 PC1, 21 PC2, 22 PC3, 23 PC4, 24 PC5, 25 (TOSC1)PC6, 26 (TOSC2)PC7, 27 AVCC (power), 28 AGND (power), 29 AREF, 30 (ADC7)PA7, 31 (ADC6)PA6, 32 (ADC5)PA5, 33 (ADC4)PA4, 34 (ADC3)PA3, 35 (ADC2)PA2, 36 (ADC1)PA1, 37 (ADC0)PA0, 38 VCC2 (power), 39 GND2 (power), 40 (T0)PB0, 41 (T1)PB1, 42 (AIN0)PB2, 43 (AIN1)PB3, 44 (SS)PB4

## AT90*4434J
designator IC?, comment MICROCONTROLLER   Low-voltage (LS)   4 Kbytes FLASH   256 bytes SRAM   256 bytes EEPROM   UART   8-channel 10 bit ADC
OC_FARNELL: unknown; OC_NEWARK: unknown
footprint PLCC44
pins: 1 GND1 (power), 2 (T0)PB0, 3 (T1)PB1, 4 (AIN0)PB2, 5 (AIN1)PB3, 6 (SS)PB4, 7 (MOSI)PB5, 8 (MISO)PB6, 9 (SCK)PB7, 10 RESET, 11 VCC1 (power), 12 GND2 (power), 13 XTAL2, 14 XTAL1, 15 (RXD)PD0, 16 (TXD)PD1, 17 (INT0)PD2, 18 (INT1)PD3, 19 (OC1B)PD4, 20 (OC1A)PD5, 21 (ICP)PD6, 22 (OC2)PD7, 23 VCC (power), 24 GND (power), 25 PC0, 26 PC1, 27 PC2, 28 PC3, 29 PC4, 30 PC5, 31 (TOSC1)PC6, 32 (TOSC2)PC7, 33 AVCC (power), 34 AGND (power), 35 AREF, 36 (ADC7)PA7, 37 (ADC6)PA6, 38 (ADC5)PA5, 39 (ADC4)PA4, 40 (ADC3)PA3, 41 (ADC2)PA2, 42 (ADC1)PA1, 43 (ADC0)PA0, 44 VCC2 (power)

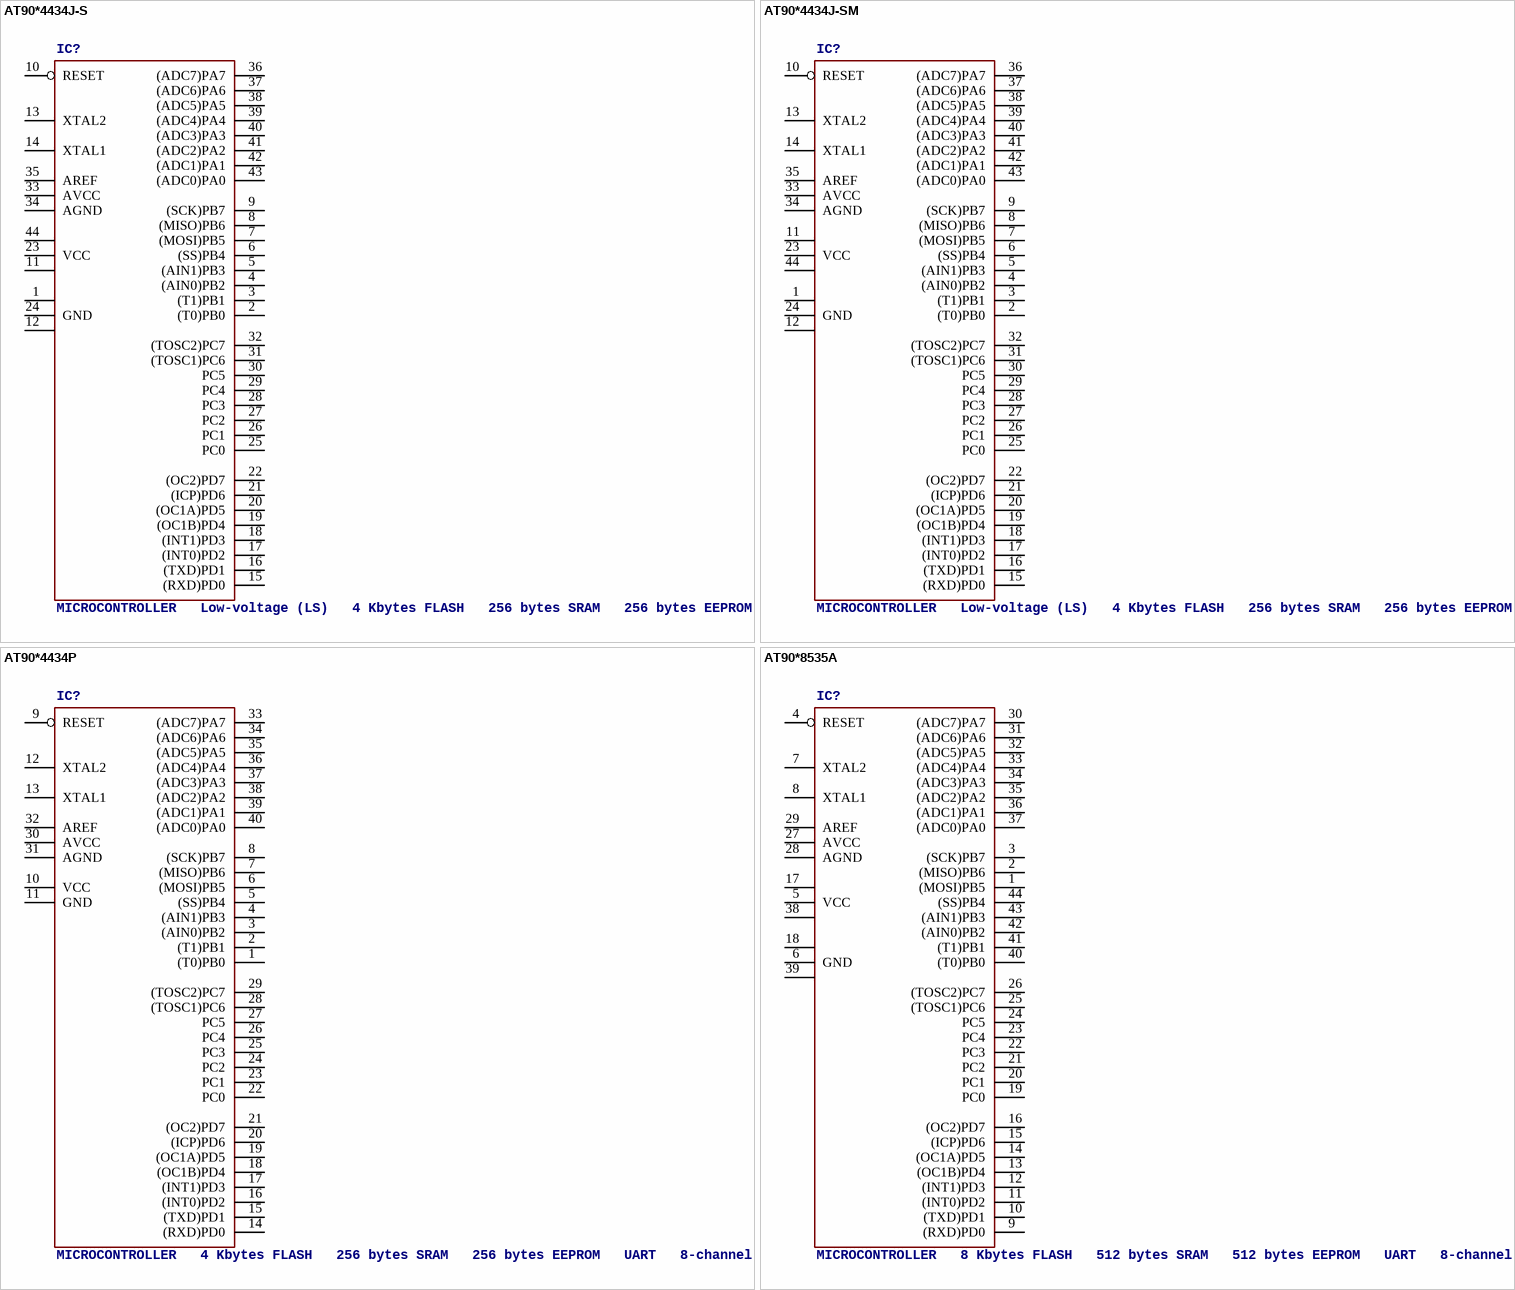
[diagram p7: symbols AT90*4434J-S to AT90*8535A]

## AT90*4434J-S
designator IC?, comment MICROCONTROLLER   Low-voltage (LS)   4 Kbytes FLASH   256 bytes SRAM   256 bytes EEPROM   UART   8-channel 10 bit ADC
OC_FARNELL: unknown; OC_NEWARK: unknown
footprint S44
pins: 1 GND1 (power), 2 (T0)PB0, 3 (T1)PB1, 4 (AIN0)PB2, 5 (AIN1)PB3, 6 (SS)PB4, 7 (MOSI)PB5, 8 (MISO)PB6, 9 (SCK)PB7, 10 RESET, 11 VCC2 (power), 12 GND2 (power), 13 XTAL2, 14 XTAL1, 15 (RXD)PD0, 16 (TXD)PD1, 17 (INT0)PD2, 18 (INT1)PD3, 19 (OC1B)PD4, 20 (OC1A)PD5, 21 (ICP)PD6, 22 (OC2)PD7, 23 VCC (power), 24 GND (power), 25 PC0, 26 PC1, 27 PC2, 28 PC3, 29 PC4, 30 PC5, 31 (TOSC1)PC6, 32 (TOSC2)PC7, 33 AVCC (power), 34 AGND (power), 35 AREF, 36 (ADC7)PA7, 37 (ADC6)PA6, 38 (ADC5)PA5, 39 (ADC4)PA4, 40 (ADC3)PA3, 41 (ADC2)PA2, 42 (ADC1)PA1, 43 (ADC0)PA0, 44 VCC1 (power)

## AT90*4434J-SM
designator IC?, comment MICROCONTROLLER   Low-voltage (LS)   4 Kbytes FLASH   256 bytes SRAM   256 bytes EEPROM   UART   8-channel 10 bit ADC
OC_FARNELL: unknown; OC_NEWARK: unknown
footprint PLCC-SM44
pins: 1 GND1 (power), 2 (T0)PB0, 3 (T1)PB1, 4 (AIN0)PB2, 5 (AIN1)PB3, 6 (SS)PB4, 7 (MOSI)PB5, 8 (MISO)PB6, 9 (SCK)PB7, 10 RESET, 11 VCC1 (power), 12 GND2 (power), 13 XTAL2, 14 XTAL1, 15 (RXD)PD0, 16 (TXD)PD1, 17 (INT0)PD2, 18 (INT1)PD3, 19 (OC1B)PD4, 20 (OC1A)PD5, 21 (ICP)PD6, 22 (OC2)PD7, 23 VCC (power), 24 GND (power), 25 PC0, 26 PC1, 27 PC2, 28 PC3, 29 PC4, 30 PC5, 31 (TOSC1)PC6, 32 (TOSC2)PC7, 33 AVCC (power), 34 AGND (power), 35 AREF, 36 (ADC7)PA7, 37 (ADC6)PA6, 38 (ADC5)PA5, 39 (ADC4)PA4, 40 (ADC3)PA3, 41 (ADC2)PA2, 42 (ADC1)PA1, 43 (ADC0)PA0, 44 VCC2 (power)

## AT90*4434P
designator IC?, comment MICROCONTROLLER   4 Kbytes FLASH   256 bytes SRAM   256 bytes EEPROM   UART   8-channel 10 bit ADC
OC_FARNELL: unknown; OC_NEWARK: unknown
footprint DIL40
pins: 1 (T0)PB0, 2 (T1)PB1, 3 (AIN0)PB2, 4 (AIN1)PB3, 5 (SS)PB4, 6 (MOSI)PB5, 7 (MISO)PB6, 8 (SCK)PB7, 9 RESET, 10 VCC (power), 11 GND (power), 12 XTAL2, 13 XTAL1, 14 (RXD)PD0, 15 (TXD)PD1, 16 (INT0)PD2, 17 (INT1)PD3, 18 (OC1B)PD4, 19 (OC1A)PD5, 20 (ICP)PD6, 21 (OC2)PD7, 22 PC0, 23 PC1, 24 PC2, 25 PC3, 26 PC4, 27 PC5, 28 (TOSC1)PC6, 29 (TOSC2)PC7, 30 AVCC (power), 31 AGND (power), 32 AREF, 33 (ADC7)PA7, 34 (ADC6)PA6, 35 (ADC5)PA5, 36 (ADC4)PA4, 37 (ADC3)PA3, 38 (ADC2)PA2, 39 (ADC1)PA1, 40 (ADC0)PA0

## AT90*8535A
designator IC?, comment MICROCONTROLLER   8 Kbytes FLASH   512 bytes SRAM   512 bytes EEPROM   UART   8-channel 10 bit ADC
OC_FARNELL: unknown; OC_NEWARK: unknown
footprint TQFP44
pins: 1 (MOSI)PB5, 2 (MISO)PB6, 3 (SCK)PB7, 4 RESET, 5 VCC (power), 6 GND (power), 7 XTAL2, 8 XTAL1, 9 (RXD)PD0, 10 (TXD)PD1, 11 (INT0)PD2, 12 (INT1)PD3, 13 (OC1B)PD4, 14 (OC1A)PD5, 15 (ICP)PD6, 16 (OC2)PD7, 17 VCC1 (power), 18 GND1 (power), 19 PC0, 20 PC1, 21 PC2, 22 PC3, 23 PC4, 24 PC5, 25 (TOSC1)PC6, 26 (TOSC2)PC7, 27 AVCC (power), 28 AGND (power), 29 AREF, 30 (ADC7)PA7, 31 (ADC6)PA6, 32 (ADC5)PA5, 33 (ADC4)PA4, 34 (ADC3)PA3, 35 (ADC2)PA2, 36 (ADC1)PA1, 37 (ADC0)PA0, 38 VCC2 (power), 39 GND2 (power), 40 (T0)PB0, 41 (T1)PB1, 42 (AIN0)PB2, 43 (AIN1)PB3, 44 (SS)PB4

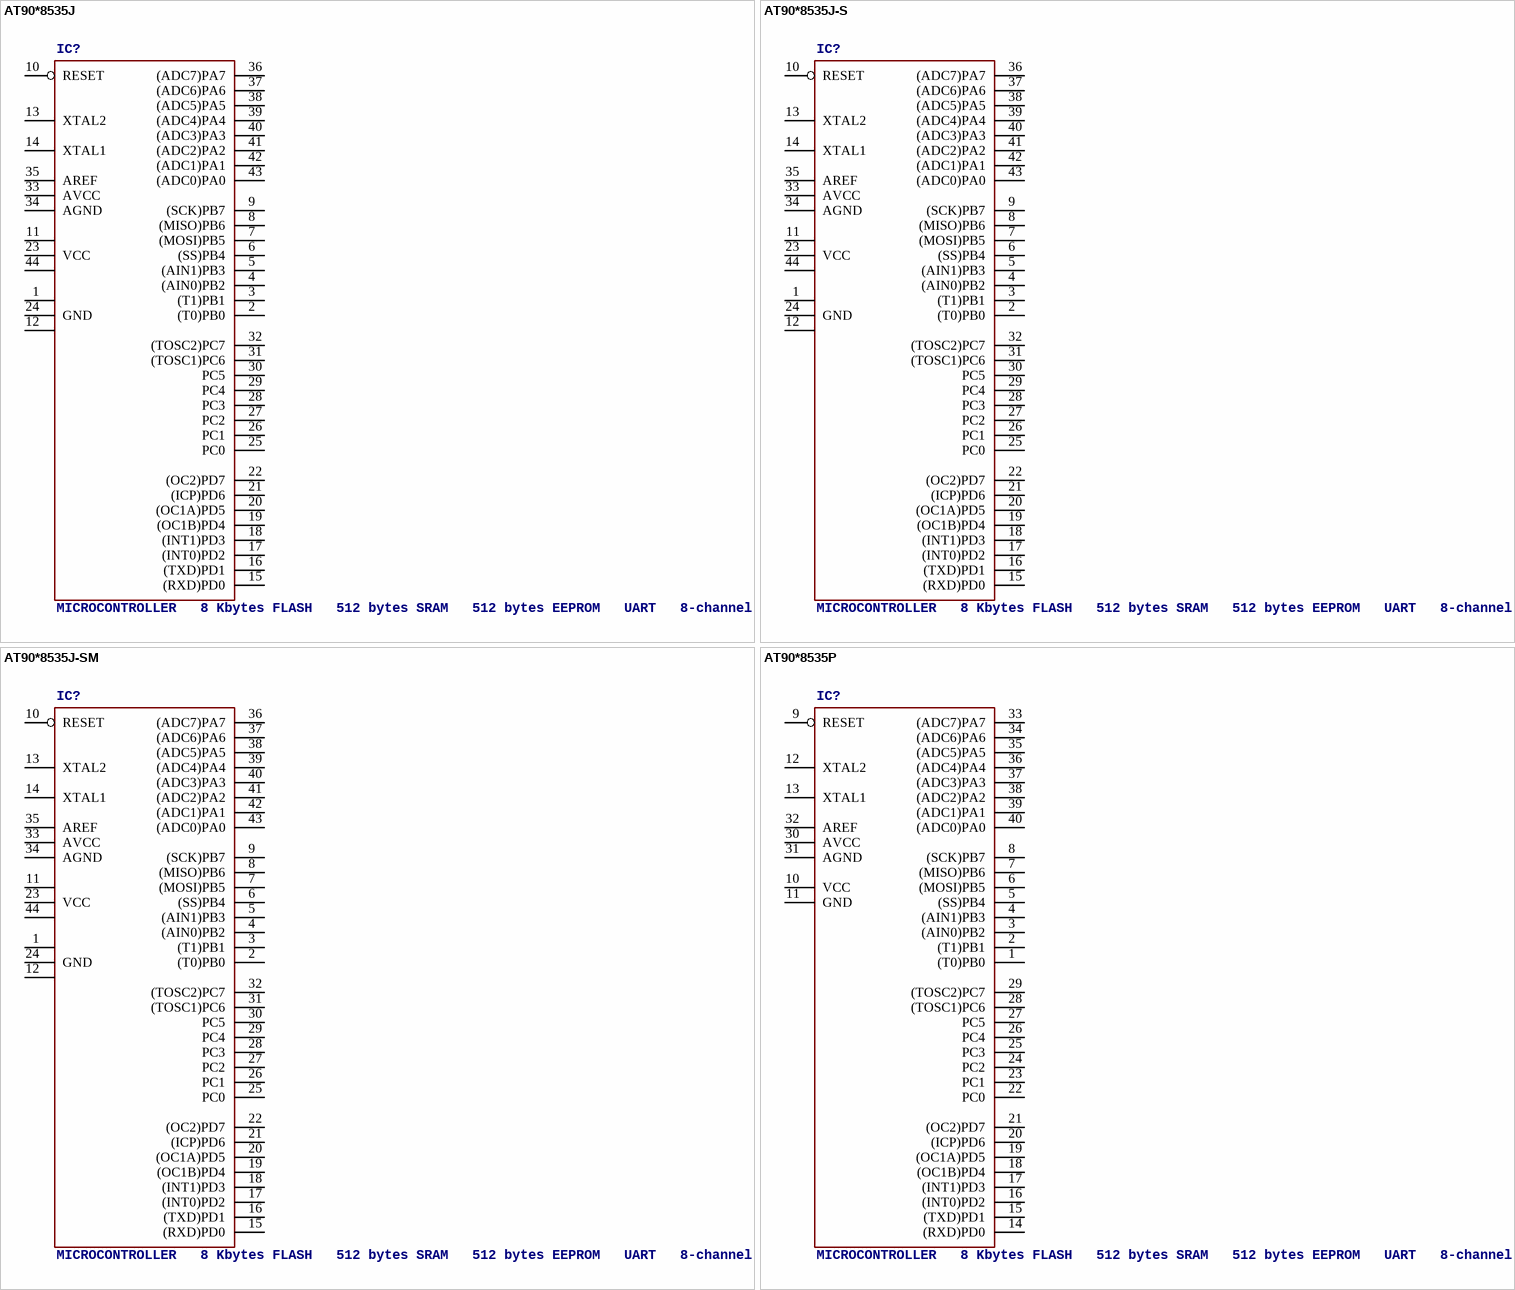
[diagram p8: symbols AT90*8535J to AT90*8535P]

## AT90*8535J
designator IC?, comment MICROCONTROLLER   8 Kbytes FLASH   512 bytes SRAM   512 bytes EEPROM   UART   8-channel 10 bit ADC
OC_FARNELL: unknown; OC_NEWARK: unknown
footprint PLCC44
pins: 1 GND1 (power), 2 (T0)PB0, 3 (T1)PB1, 4 (AIN0)PB2, 5 (AIN1)PB3, 6 (SS)PB4, 7 (MOSI)PB5, 8 (MISO)PB6, 9 (SCK)PB7, 10 RESET, 11 VCC1 (power), 12 GND2 (power), 13 XTAL2, 14 XTAL1, 15 (RXD)PD0, 16 (TXD)PD1, 17 (INT0)PD2, 18 (INT1)PD3, 19 (OC1B)PD4, 20 (OC1A)PD5, 21 (ICP)PD6, 22 (OC2)PD7, 23 VCC (power), 24 GND (power), 25 PC0, 26 PC1, 27 PC2, 28 PC3, 29 PC4, 30 PC5, 31 (TOSC1)PC6, 32 (TOSC2)PC7, 33 AVCC (power), 34 AGND (power), 35 AREF, 36 (ADC7)PA7, 37 (ADC6)PA6, 38 (ADC5)PA5, 39 (ADC4)PA4, 40 (ADC3)PA3, 41 (ADC2)PA2, 42 (ADC1)PA1, 43 (ADC0)PA0, 44 VCC2 (power)

## AT90*8535J-S
designator IC?, comment MICROCONTROLLER   8 Kbytes FLASH   512 bytes SRAM   512 bytes EEPROM   UART   8-channel 10 bit ADC
OC_FARNELL: unknown; OC_NEWARK: unknown
footprint S44
pins: 1 GND1 (power), 2 (T0)PB0, 3 (T1)PB1, 4 (AIN0)PB2, 5 (AIN1)PB3, 6 (SS)PB4, 7 (MOSI)PB5, 8 (MISO)PB6, 9 (SCK)PB7, 10 RESET, 11 VCC1 (power), 12 GND2 (power), 13 XTAL2, 14 XTAL1, 15 (RXD)PD0, 16 (TXD)PD1, 17 (INT0)PD2, 18 (INT1)PD3, 19 (OC1B)PD4, 20 (OC1A)PD5, 21 (ICP)PD6, 22 (OC2)PD7, 23 VCC (power), 24 GND (power), 25 PC0, 26 PC1, 27 PC2, 28 PC3, 29 PC4, 30 PC5, 31 (TOSC1)PC6, 32 (TOSC2)PC7, 33 AVCC (power), 34 AGND (power), 35 AREF, 36 (ADC7)PA7, 37 (ADC6)PA6, 38 (ADC5)PA5, 39 (ADC4)PA4, 40 (ADC3)PA3, 41 (ADC2)PA2, 42 (ADC1)PA1, 43 (ADC0)PA0, 44 VCC2 (power)

## AT90*8535J-SM
designator IC?, comment MICROCONTROLLER   8 Kbytes FLASH   512 bytes SRAM   512 bytes EEPROM   UART   8-channel 10 bit ADC
OC_FARNELL: unknown; OC_NEWARK: unknown
footprint PLCC-SM44
pins: 1 GND1 (power), 2 (T0)PB0, 3 (T1)PB1, 4 (AIN0)PB2, 5 (AIN1)PB3, 6 (SS)PB4, 7 (MOSI)PB5, 8 (MISO)PB6, 9 (SCK)PB7, 10 RESET, 11 VCC1 (power), 12 GND2 (power), 13 XTAL2, 14 XTAL1, 15 (RXD)PD0, 16 (TXD)PD1, 17 (INT0)PD2, 18 (INT1)PD3, 19 (OC1B)PD4, 20 (OC1A)PD5, 21 (ICP)PD6, 22 (OC2)PD7, 23 VCC (power), 24 GND (power), 25 PC0, 26 PC1, 27 PC2, 28 PC3, 29 PC4, 30 PC5, 31 (TOSC1)PC6, 32 (TOSC2)PC7, 33 AVCC (power), 34 AGND (power), 35 AREF, 36 (ADC7)PA7, 37 (ADC6)PA6, 38 (ADC5)PA5, 39 (ADC4)PA4, 40 (ADC3)PA3, 41 (ADC2)PA2, 42 (ADC1)PA1, 43 (ADC0)PA0, 44 VCC2 (power)

## AT90*8535P
designator IC?, comment MICROCONTROLLER   8 Kbytes FLASH   512 bytes SRAM   512 bytes EEPROM   UART   8-channel 10 bit ADC
OC_FARNELL: unknown; OC_NEWARK: unknown
footprint DIL40
pins: 1 (T0)PB0, 2 (T1)PB1, 3 (AIN0)PB2, 4 (AIN1)PB3, 5 (SS)PB4, 6 (MOSI)PB5, 7 (MISO)PB6, 8 (SCK)PB7, 9 RESET, 10 VCC (power), 11 GND (power), 12 XTAL2, 13 XTAL1, 14 (RXD)PD0, 15 (TXD)PD1, 16 (INT0)PD2, 17 (INT1)PD3, 18 (OC1B)PD4, 19 (OC1A)PD5, 20 (ICP)PD6, 21 (OC2)PD7, 22 PC0, 23 PC1, 24 PC2, 25 PC3, 26 PC4, 27 PC5, 28 (TOSC1)PC6, 29 (TOSC2)PC7, 30 AVCC (power), 31 AGND (power), 32 AREF, 33 (ADC7)PA7, 34 (ADC6)PA6, 35 (ADC5)PA5, 36 (ADC4)PA4, 37 (ADC3)PA3, 38 (ADC2)PA2, 39 (ADC1)PA1, 40 (ADC0)PA0

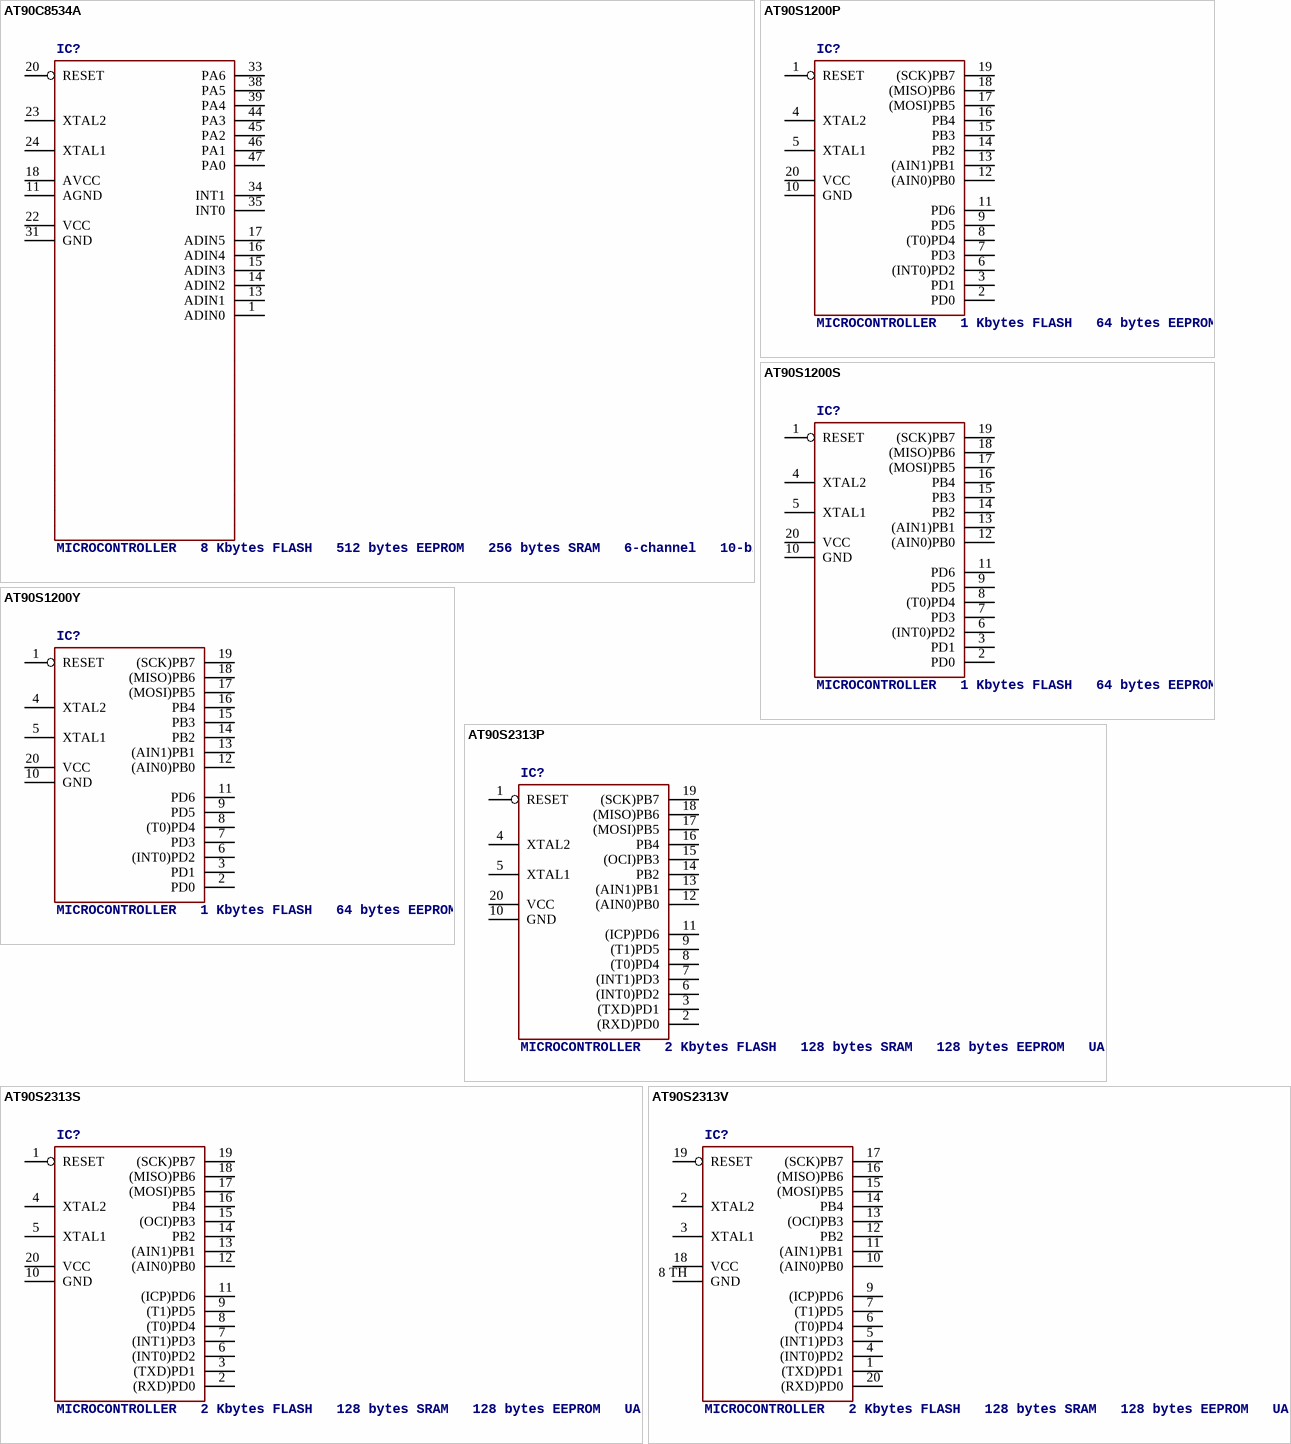
[diagram p9: symbols AT90C8534A to AT90S2313V]

## AT90C8534A
designator IC?, comment MICROCONTROLLER   8 Kbytes FLASH   512 bytes EEPROM   256 bytes SRAM   6-channel   10-bit A/D
OC_FARNELL: unknown; OC_NEWARK: unknown
footprint TQFP48
pins: 1 ADIN0, 2 NC1, 3 NC2, 4 NC3, 5 NC4, 6 NC5, 7 NC6, 8 NC7, 9 NC8, 10 NC9, 11 AGND, 12 NC10, 13 ADIN1, 14 ADIN2, 15 ADIN3, 16 ADIN4, 17 ADIN5, 18 AVCC, 19 NC11, 20 RESET, 21 NC12, 22 VCC (power), 23 XTAL2, 24 XTAL1, 25 NC13, 26 NC14, 27 NC15, 28 NC16, 29 NC17, 30 NC18, 31 GND (power), 32 NC19, 33 PA6, 34 INT1, 35 INT0, 36 NC20, 37 NC21, 38 PA5, 39 PA4, 40 NC22, 41 NC23, 42 NC24, 43 NC25, 44 PA3, 45 PA2, 46 PA1, 47 PA0, 48 NC26

## AT90S1200P
designator IC?, comment MICROCONTROLLER   1 Kbytes FLASH   64 bytes EEPROM
OC_FARNELL: unknown; OC_NEWARK: unknown
footprint DIL20
pins: 1 RESET, 2 PD0, 3 PD1, 4 XTAL2, 5 XTAL1, 6 (INT0)PD2, 7 PD3, 8 (T0)PD4, 9 PD5, 10 GND (power), 11 PD6, 12 (AIN0)PB0, 13 (AIN1)PB1, 14 PB2, 15 PB3, 16 PB4, 17 (MOSI)PB5, 18 (MISO)PB6, 19 (SCK)PB7, 20 VCC (power)

## AT90S1200S
designator IC?, comment MICROCONTROLLER   1 Kbytes FLASH   64 bytes EEPROM
OC_FARNELL: unknown; OC_NEWARK: unknown
footprint SO20L
pins: 1 RESET, 2 PD0, 3 PD1, 4 XTAL2, 5 XTAL1, 6 (INT0)PD2, 7 PD3, 8 (T0)PD4, 9 PD5, 10 GND (power), 11 PD6, 12 (AIN0)PB0, 13 (AIN1)PB1, 14 PB2, 15 PB3, 16 PB4, 17 (MOSI)PB5, 18 (MISO)PB6, 19 (SCK)PB7, 20 VCC (power)

## AT90S1200Y
designator IC?, comment MICROCONTROLLER   1 Kbytes FLASH   64 bytes EEPROM
OC_FARNELL: unknown; OC_NEWARK: unknown
footprint SSOP20D8
pins: 1 RESET, 2 PD0, 3 PD1, 4 XTAL2, 5 XTAL1, 6 (INT0)PD2, 7 PD3, 8 (T0)PD4, 9 PD5, 10 GND (power), 11 PD6, 12 (AIN0)PB0, 13 (AIN1)PB1, 14 PB2, 15 PB3, 16 PB4, 17 (MOSI)PB5, 18 (MISO)PB6, 19 (SCK)PB7, 20 VCC (power)

## AT90S2313P
designator IC?, comment MICROCONTROLLER   2 Kbytes FLASH   128 bytes SRAM   128 bytes EEPROM   UART
OC_FARNELL: unknown; OC_NEWARK: unknown
footprint DIL20
pins: 1 RESET, 2 (RXD)PD0, 3 (TXD)PD1, 4 XTAL2, 5 XTAL1, 6 (INT0)PD2, 7 (INT1)PD3, 8 (T0)PD4, 9 (T1)PD5, 10 GND (power), 11 (ICP)PD6, 12 (AIN0)PB0, 13 (AIN1)PB1, 14 PB2, 15 (OCI)PB3, 16 PB4, 17 (MOSI)PB5, 18 (MISO)PB6, 19 (SCK)PB7, 20 VCC (power)

## AT90S2313S
designator IC?, comment MICROCONTROLLER   2 Kbytes FLASH   128 bytes SRAM   128 bytes EEPROM   UART
OC_FARNELL: unknown; OC_NEWARK: unknown
footprint SO20L
pins: 1 RESET, 2 (RXD)PD0, 3 (TXD)PD1, 4 XTAL2, 5 XTAL1, 6 (INT0)PD2, 7 (INT1)PD3, 8 (T0)PD4, 9 (T1)PD5, 10 GND (power), 11 (ICP)PD6, 12 (AIN0)PB0, 13 (AIN1)PB1, 14 PB2, 15 (OCI)PB3, 16 PB4, 17 (MOSI)PB5, 18 (MISO)PB6, 19 (SCK)PB7, 20 VCC (power)

## AT90S2313V
designator IC?, comment MICROCONTROLLER   2 Kbytes FLASH   128 bytes SRAM   128 bytes EEPROM   UART
footprint MLF20-4X4
pins: 1 (TXD)PD1, 2 XTAL2, 3 XTAL1, 4 (INT0)PD2, 5 (INT1)PD3, 6 (T0)PD4, 7 (T1)PD5, 8 TH GND (power), 9 (ICP)PD6, 10 (AIN0)PB0, 11 (AIN1)PB1, 12 PB2, 13 (OCI)PB3, 14 PB4, 15 (MOSI)PB5, 16 (MISO)PB6, 17 (SCK)PB7, 18 VCC (power), 19 RESET, 20 (RXD)PD0

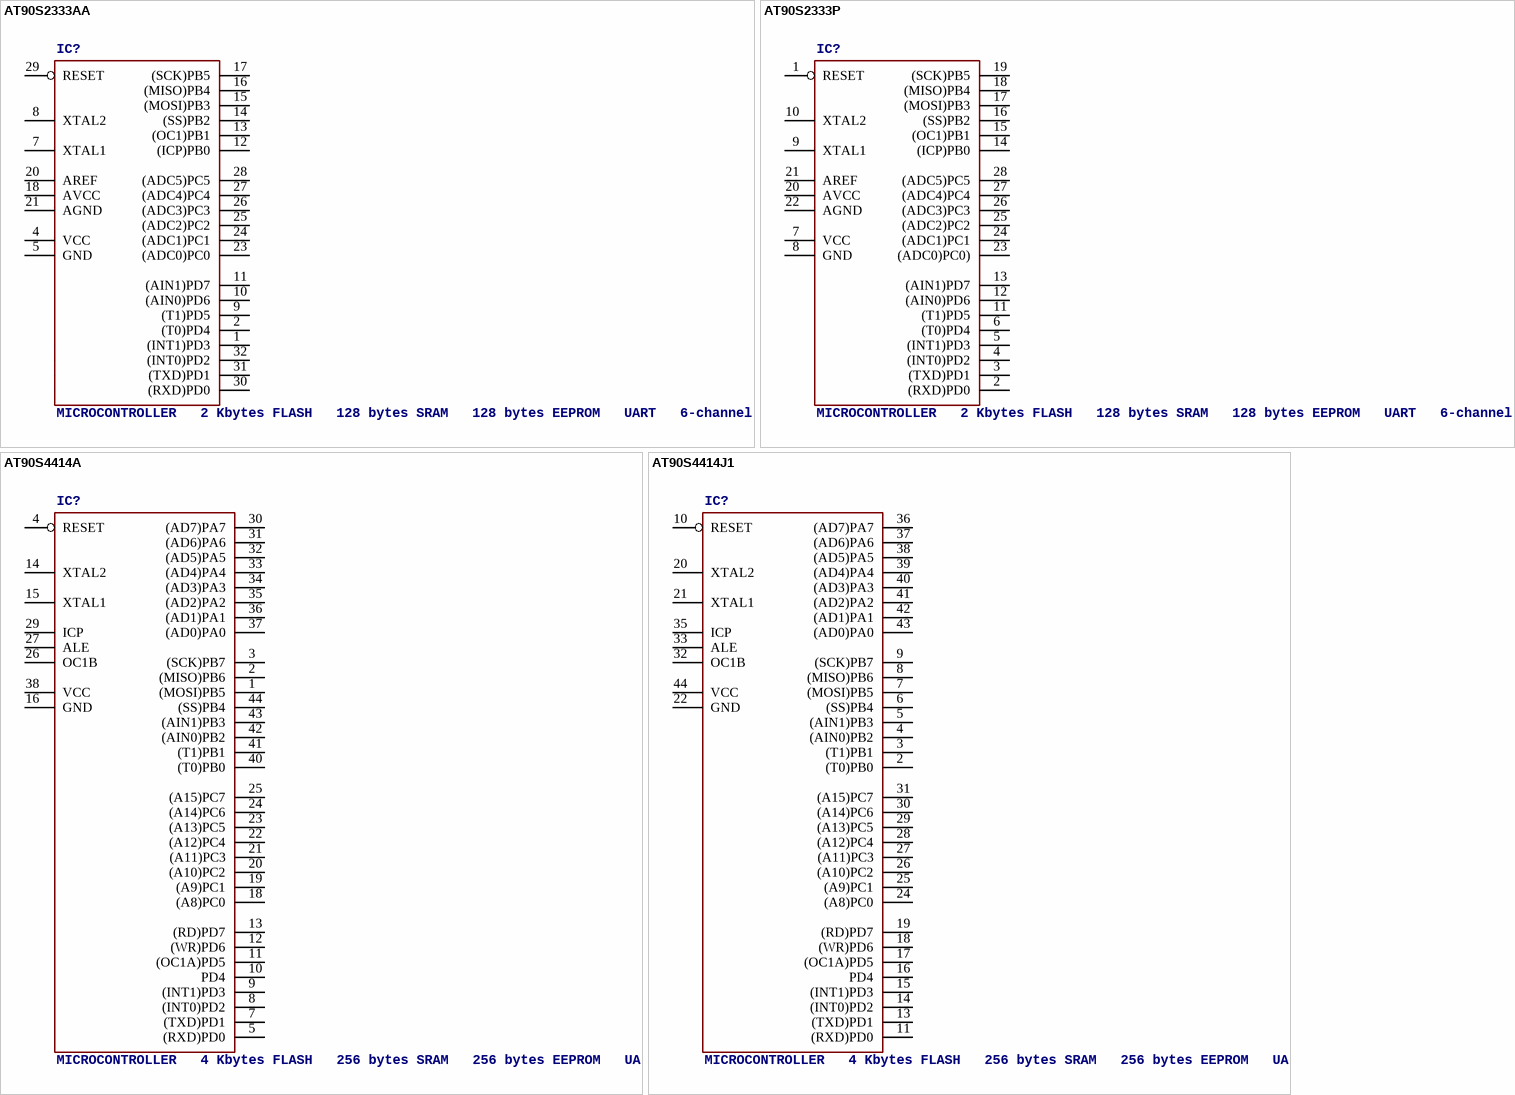
[diagram p10: symbols AT90S2333AA to AT90S4414J1]

## AT90S2333AA
designator IC?, comment MICROCONTROLLER   2 Kbytes FLASH   128 bytes SRAM   128 bytes EEPROM   UART   6-channel 10-bit ADC
OC_FARNELL: unknown; OC_NEWARK: unknown
footprint TQFP32-08
pins: 1 (INT1)PD3, 2 (T0)PD4, 3 NC1, 4 VCC (power), 5 GND (power), 6 NC2, 7 XTAL1, 8 XTAL2, 9 (T1)PD5, 10 (AIN0)PD6, 11 (AIN1)PD7, 12 (ICP)PB0, 13 (OC1)PB1, 14 (SS)PB2, 15 (MOSI)PB3, 16 (MISO)PB4, 17 (SCK)PB5, 18 AVCC (power), 19 NC3, 20 AREF, 21 AGND (power), 22 NC4, 23 (ADC0)PC0, 24 (ADC1)PC1, 25 (ADC2)PC2, 26 (ADC3)PC3, 27 (ADC4)PC4, 28 (ADC5)PC5, 29 RESET, 30 (RXD)PD0, 31 (TXD)PD1, 32 (INT0)PD2

## AT90S2333P
designator IC?, comment MICROCONTROLLER   2 Kbytes FLASH   128 bytes SRAM   128 bytes EEPROM   UART   6-channel 10-bit ADC
OC_FARNELL: unknown; OC_NEWARK: unknown
footprint DIL28-3
pins: 1 RESET, 2 (RXD)PD0, 3 (TXD)PD1, 4 (INT0)PD2, 5 (INT1)PD3, 6 (T0)PD4, 7 VCC (power), 8 GND (power), 9 XTAL1, 10 XTAL2, 11 (T1)PD5, 12 (AIN0)PD6, 13 (AIN1)PD7, 14 (ICP)PB0, 15 (OC1)PB1, 16 (SS)PB2, 17 (MOSI)PB3, 18 (MISO)PB4, 19 (SCK)PB5, 20 AVCC (power), 21 AREF, 22 AGND (power), 23 (ADC0)PC0), 24 (ADC1)PC1, 25 (ADC2)PC2, 26 (ADC3)PC3, 27 (ADC4)PC4, 28 (ADC5)PC5

## AT90S4414A
designator IC?, comment MICROCONTROLLER   4 Kbytes FLASH   256 bytes SRAM   256 bytes EEPROM   UART
OC_FARNELL: unknown; OC_NEWARK: unknown
footprint TQFP44
pins: 1 (MOSI)PB5, 2 (MISO)PB6, 3 (SCK)PB7, 4 RESET, 5 (RXD)PD0, 7 (TXD)PD1, 8 (INT0)PD2, 9 (INT1)PD3, 10 PD4, 11 (OC1A)PD5, 12 (WR)PD6, 13 (RD)PD7, 14 XTAL2, 15 XTAL1, 16 GND (power), 18 (A8)PC0, 19 (A9)PC1, 20 (A10)PC2, 21 (A11)PC3, 22 (A12)PC4, 23 (A13)PC5, 24 (A14)PC6, 25 (A15)PC7, 26 OC1B, 27 ALE, 29 ICP, 30 (AD7)PA7, 31 (AD6)PA6, 32 (AD5)PA5, 33 (AD4)PA4, 34 (AD3)PA3, 35 (AD2)PA2, 36 (AD1)PA1, 37 (AD0)PA0, 38 VCC (power), 40 (T0)PB0, 41 (T1)PB1, 42 (AIN0)PB2, 43 (AIN1)PB3, 44 (SS)PB4

## AT90S4414J1
designator IC?, comment MICROCONTROLLER   4 Kbytes FLASH   256 bytes SRAM   256 bytes EEPROM   UART
OC_FARNELL: unknown; OC_NEWARK: unknown
footprint S44
pins: 2 (T0)PB0, 3 (T1)PB1, 4 (AIN0)PB2, 5 (AIN1)PB3, 6 (SS)PB4, 7 (MOSI)PB5, 8 (MISO)PB6, 9 (SCK)PB7, 10 RESET, 11 (RXD)PD0, 13 (TXD)PD1, 14 (INT0)PD2, 15 (INT1)PD3, 16 PD4, 17 (OC1A)PD5, 18 (WR)PD6, 19 (RD)PD7, 20 XTAL2, 21 XTAL1, 22 GND (power), 24 (A8)PC0, 25 (A9)PC1, 26 (A10)PC2, 27 (A11)PC3, 28 (A12)PC4, 29 (A13)PC5, 30 (A14)PC6, 31 (A15)PC7, 32 OC1B, 33 ALE, 35 ICP, 36 (AD7)PA7, 37 (AD6)PA6, 38 (AD5)PA5, 39 (AD4)PA4, 40 (AD3)PA3, 41 (AD2)PA2, 42 (AD1)PA1, 43 (AD0)PA0, 44 VCC (power)

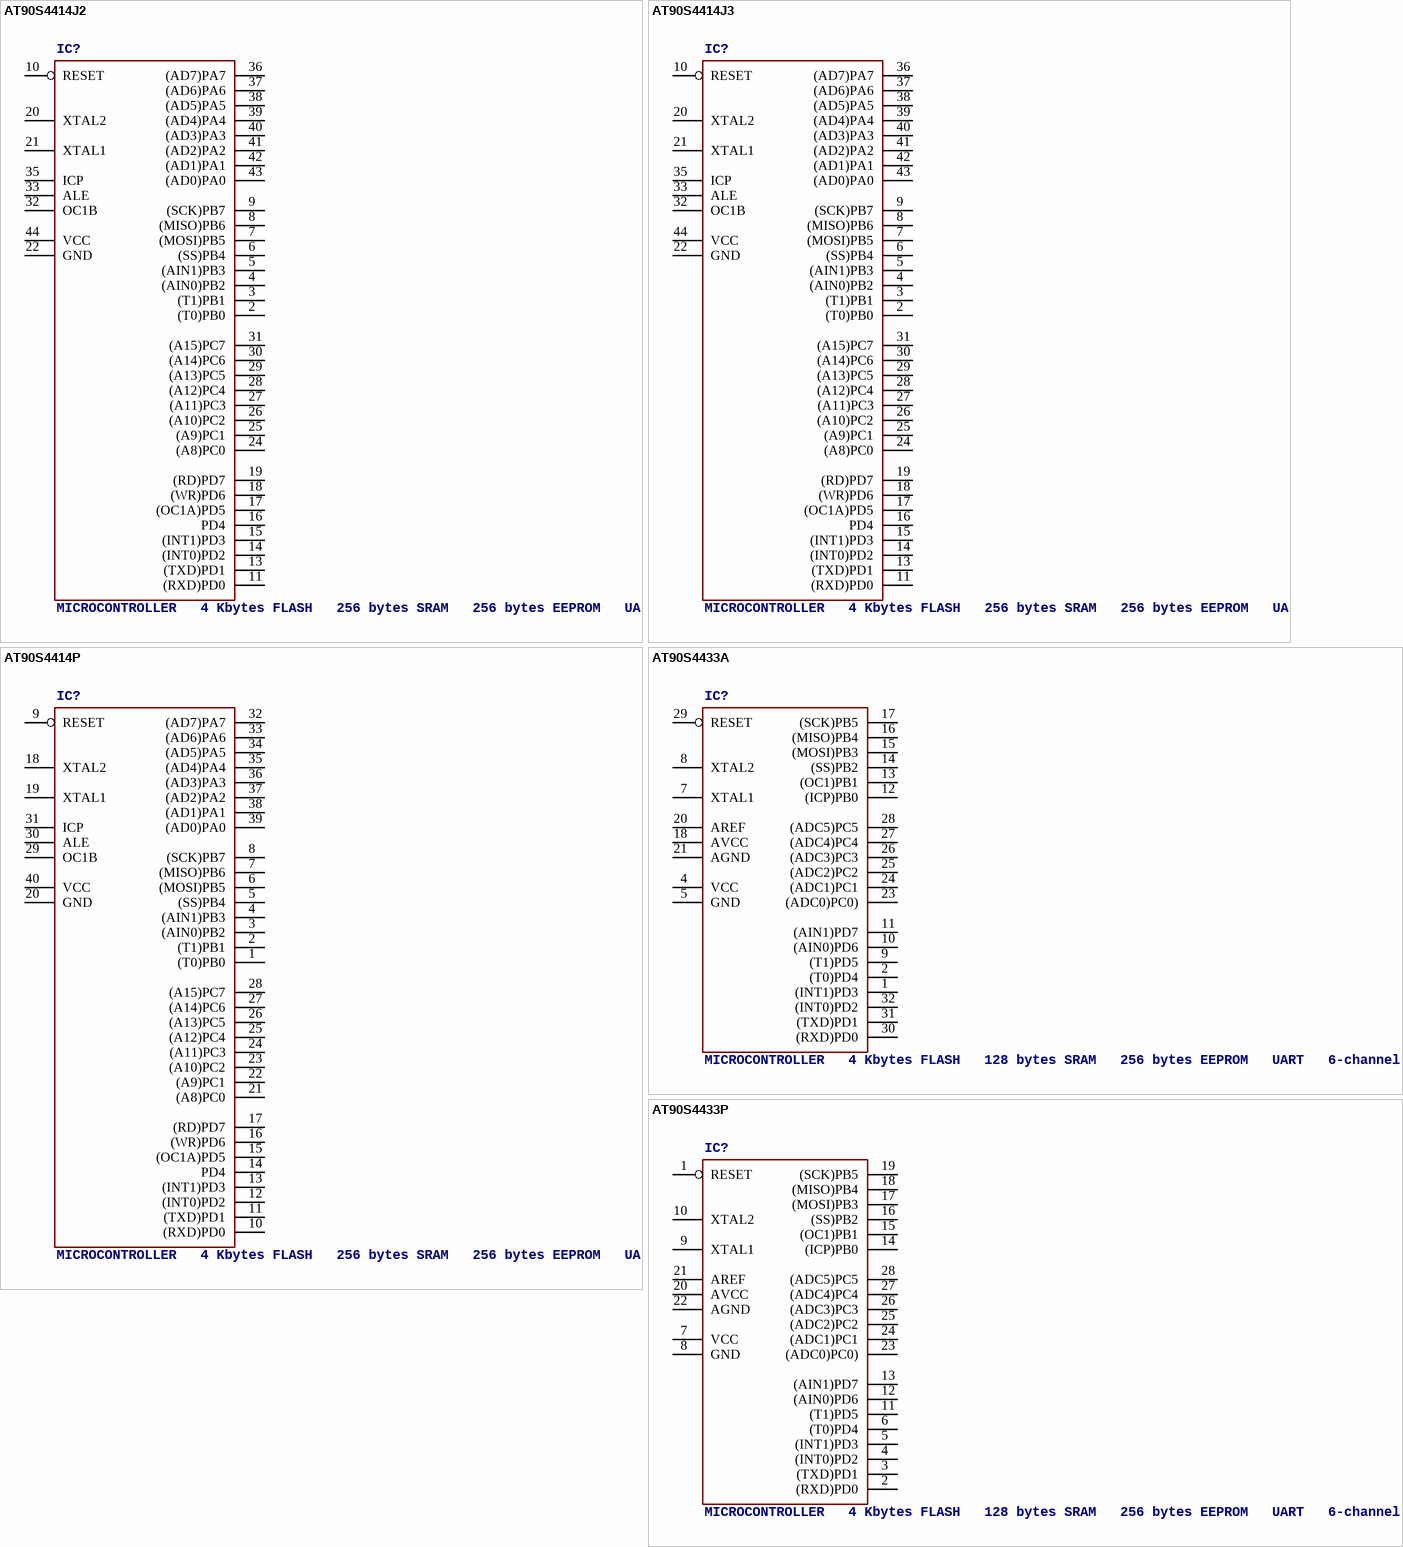
[diagram p11: symbols AT90S4414J2 to AT90S4433P]

## AT90S4414J2
designator IC?, comment MICROCONTROLLER   4 Kbytes FLASH   256 bytes SRAM   256 bytes EEPROM   UART
OC_FARNELL: unknown; OC_NEWARK: unknown
footprint PLCC44
pins: 2 (T0)PB0, 3 (T1)PB1, 4 (AIN0)PB2, 5 (AIN1)PB3, 6 (SS)PB4, 7 (MOSI)PB5, 8 (MISO)PB6, 9 (SCK)PB7, 10 RESET, 11 (RXD)PD0, 13 (TXD)PD1, 14 (INT0)PD2, 15 (INT1)PD3, 16 PD4, 17 (OC1A)PD5, 18 (WR)PD6, 19 (RD)PD7, 20 XTAL2, 21 XTAL1, 22 GND (power), 24 (A8)PC0, 25 (A9)PC1, 26 (A10)PC2, 27 (A11)PC3, 28 (A12)PC4, 29 (A13)PC5, 30 (A14)PC6, 31 (A15)PC7, 32 OC1B, 33 ALE, 35 ICP, 36 (AD7)PA7, 37 (AD6)PA6, 38 (AD5)PA5, 39 (AD4)PA4, 40 (AD3)PA3, 41 (AD2)PA2, 42 (AD1)PA1, 43 (AD0)PA0, 44 VCC (power)

## AT90S4414J3
designator IC?, comment MICROCONTROLLER   4 Kbytes FLASH   256 bytes SRAM   256 bytes EEPROM   UART
OC_FARNELL: unknown; OC_NEWARK: unknown
footprint PLCC-SM44
pins: 2 (T0)PB0, 3 (T1)PB1, 4 (AIN0)PB2, 5 (AIN1)PB3, 6 (SS)PB4, 7 (MOSI)PB5, 8 (MISO)PB6, 9 (SCK)PB7, 10 RESET, 11 (RXD)PD0, 13 (TXD)PD1, 14 (INT0)PD2, 15 (INT1)PD3, 16 PD4, 17 (OC1A)PD5, 18 (WR)PD6, 19 (RD)PD7, 20 XTAL2, 21 XTAL1, 22 GND (power), 24 (A8)PC0, 25 (A9)PC1, 26 (A10)PC2, 27 (A11)PC3, 28 (A12)PC4, 29 (A13)PC5, 30 (A14)PC6, 31 (A15)PC7, 32 OC1B, 33 ALE, 35 ICP, 36 (AD7)PA7, 37 (AD6)PA6, 38 (AD5)PA5, 39 (AD4)PA4, 40 (AD3)PA3, 41 (AD2)PA2, 42 (AD1)PA1, 43 (AD0)PA0, 44 VCC (power)

## AT90S4414P
designator IC?, comment MICROCONTROLLER   4 Kbytes FLASH   256 bytes SRAM   256 bytes EEPROM   UART
OC_FARNELL: unknown; OC_NEWARK: unknown
footprint DIL40
pins: 1 (T0)PB0, 2 (T1)PB1, 3 (AIN0)PB2, 4 (AIN1)PB3, 5 (SS)PB4, 6 (MOSI)PB5, 7 (MISO)PB6, 8 (SCK)PB7, 9 RESET, 10 (RXD)PD0, 11 (TXD)PD1, 12 (INT0)PD2, 13 (INT1)PD3, 14 PD4, 15 (OC1A)PD5, 16 (WR)PD6, 17 (RD)PD7, 18 XTAL2, 19 XTAL1, 20 GND (power), 21 (A8)PC0, 22 (A9)PC1, 23 (A10)PC2, 24 (A11)PC3, 25 (A12)PC4, 26 (A13)PC5, 27 (A14)PC6, 28 (A15)PC7, 29 OC1B, 30 ALE, 31 ICP, 32 (AD7)PA7, 33 (AD6)PA6, 34 (AD5)PA5, 35 (AD4)PA4, 36 (AD3)PA3, 37 (AD2)PA2, 38 (AD1)PA1, 39 (AD0)PA0, 40 VCC (power)

## AT90S4433A
designator IC?, comment MICROCONTROLLER   4 Kbytes FLASH   128 bytes SRAM   256 bytes EEPROM   UART   6-channel 10 bit ADC
OC_FARNELL: unknown; OC_NEWARK: unknown
footprint TQFP32-08
pins: 1 (INT1)PD3, 2 (T0)PD4, 4 VCC (power), 5 GND (power), 7 XTAL1, 8 XTAL2, 9 (T1)PD5, 10 (AIN0)PD6, 11 (AIN1)PD7, 12 (ICP)PB0, 13 (OC1)PB1, 14 (SS)PB2, 15 (MOSI)PB3, 16 (MISO)PB4, 17 (SCK)PB5, 18 AVCC (power), 20 AREF, 21 AGND (power), 23 (ADC0)PC0), 24 (ADC1)PC1, 25 (ADC2)PC2, 26 (ADC3)PC3, 27 (ADC4)PC4, 28 (ADC5)PC5, 29 RESET, 30 (RXD)PD0, 31 (TXD)PD1, 32 (INT0)PD2

## AT90S4433P
designator IC?, comment MICROCONTROLLER   4 Kbytes FLASH   128 bytes SRAM   256 bytes EEPROM   UART   6-channel 10 bit ADC
OC_FARNELL: unknown; OC_NEWARK: unknown
footprint DIL28-3
pins: 1 RESET, 2 (RXD)PD0, 3 (TXD)PD1, 4 (INT0)PD2, 5 (INT1)PD3, 6 (T0)PD4, 7 VCC (power), 8 GND (power), 9 XTAL1, 10 XTAL2, 11 (T1)PD5, 12 (AIN0)PD6, 13 (AIN1)PD7, 14 (ICP)PB0, 15 (OC1)PB1, 16 (SS)PB2, 17 (MOSI)PB3, 18 (MISO)PB4, 19 (SCK)PB5, 20 AVCC (power), 21 AREF, 22 AGND (power), 23 (ADC0)PC0), 24 (ADC1)PC1, 25 (ADC2)PC2, 26 (ADC3)PC3, 27 (ADC4)PC4, 28 (ADC5)PC5

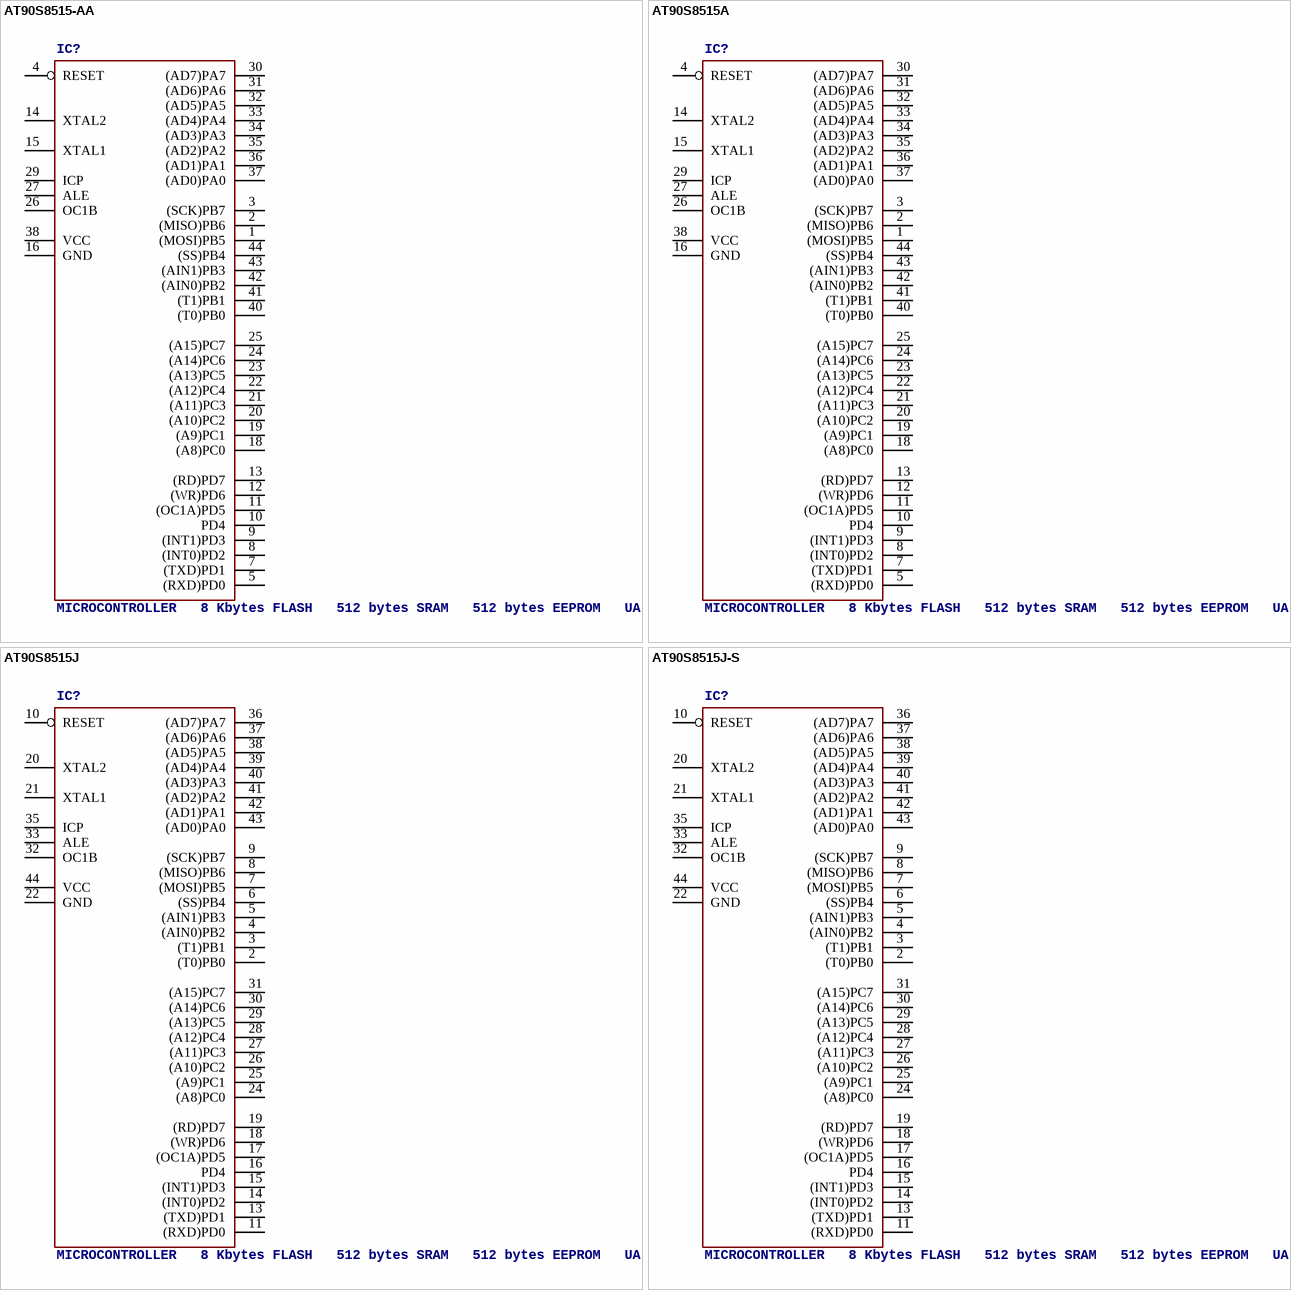
[diagram p12: symbols AT90S8515-AA to AT90S8515J-S]

## AT90S8515-AA
designator IC?, comment MICROCONTROLLER   8 Kbytes FLASH   512 bytes SRAM   512 bytes EEPROM   UART
OC_FARNELL: unknown; OC_NEWARK: unknown
footprint TQFP44
pins: 1 (MOSI)PB5, 2 (MISO)PB6, 3 (SCK)PB7, 4 RESET, 5 (RXD)PD0, 6 NC1, 7 (TXD)PD1, 8 (INT0)PD2, 9 (INT1)PD3, 10 PD4, 11 (OC1A)PD5, 12 (WR)PD6, 13 (RD)PD7, 14 XTAL2, 15 XTAL1, 16 GND (power), 17 NC2, 18 (A8)PC0, 19 (A9)PC1, 20 (A10)PC2, 21 (A11)PC3, 22 (A12)PC4, 23 (A13)PC5, 24 (A14)PC6, 25 (A15)PC7, 26 OC1B, 27 ALE, 28 NC3, 29 ICP, 30 (AD7)PA7, 31 (AD6)PA6, 32 (AD5)PA5, 33 (AD4)PA4, 34 (AD3)PA3, 35 (AD2)PA2, 36 (AD1)PA1, 37 (AD0)PA0, 38 VCC (power), 39 NC4, 40 (T0)PB0, 41 (T1)PB1, 42 (AIN0)PB2, 43 (AIN1)PB3, 44 (SS)PB4

## AT90S8515A
designator IC?, comment MICROCONTROLLER   8 Kbytes FLASH   512 bytes SRAM   512 bytes EEPROM   UART
OC_FARNELL: unknown; OC_NEWARK: unknown
footprint TQFP44
pins: 1 (MOSI)PB5, 2 (MISO)PB6, 3 (SCK)PB7, 4 RESET, 5 (RXD)PD0, 6 NC1, 7 (TXD)PD1, 8 (INT0)PD2, 9 (INT1)PD3, 10 PD4, 11 (OC1A)PD5, 12 (WR)PD6, 13 (RD)PD7, 14 XTAL2, 15 XTAL1, 16 GND (power), 17 NC2, 18 (A8)PC0, 19 (A9)PC1, 20 (A10)PC2, 21 (A11)PC3, 22 (A12)PC4, 23 (A13)PC5, 24 (A14)PC6, 25 (A15)PC7, 26 OC1B, 27 ALE, 28 NC3, 29 ICP, 30 (AD7)PA7, 31 (AD6)PA6, 32 (AD5)PA5, 33 (AD4)PA4, 34 (AD3)PA3, 35 (AD2)PA2, 36 (AD1)PA1, 37 (AD0)PA0, 38 VCC (power), 39 NC4, 40 (T0)PB0, 41 (T1)PB1, 42 (AIN0)PB2, 43 (AIN1)PB3, 44 (SS)PB4

## AT90S8515J
designator IC?, comment MICROCONTROLLER   8 Kbytes FLASH   512 bytes SRAM   512 bytes EEPROM   UART
OC_FARNELL: unknown; OC_NEWARK: unknown
footprint PLCC44
pins: 1 NC4, 2 (T0)PB0, 3 (T1)PB1, 4 (AIN0)PB2, 5 (AIN1)PB3, 6 (SS)PB4, 7 (MOSI)PB5, 8 (MISO)PB6, 9 (SCK)PB7, 10 RESET, 11 (RXD)PD0, 12 NC3, 13 (TXD)PD1, 14 (INT0)PD2, 15 (INT1)PD3, 16 PD4, 17 (OC1A)PD5, 18 (WR)PD6, 19 (RD)PD7, 20 XTAL2, 21 XTAL1, 22 GND (power), 23 NC2, 24 (A8)PC0, 25 (A9)PC1, 26 (A10)PC2, 27 (A11)PC3, 28 (A12)PC4, 29 (A13)PC5, 30 (A14)PC6, 31 (A15)PC7, 32 OC1B, 33 ALE, 34 NC1, 35 ICP, 36 (AD7)PA7, 37 (AD6)PA6, 38 (AD5)PA5, 39 (AD4)PA4, 40 (AD3)PA3, 41 (AD2)PA2, 42 (AD1)PA1, 43 (AD0)PA0, 44 VCC (power)

## AT90S8515J-S
designator IC?, comment MICROCONTROLLER   8 Kbytes FLASH   512 bytes SRAM   512 bytes EEPROM   UART
OC_FARNELL: unknown; OC_NEWARK: unknown
footprint S44
pins: 1 NC4, 2 (T0)PB0, 3 (T1)PB1, 4 (AIN0)PB2, 5 (AIN1)PB3, 6 (SS)PB4, 7 (MOSI)PB5, 8 (MISO)PB6, 9 (SCK)PB7, 10 RESET, 11 (RXD)PD0, 12 NC3, 13 (TXD)PD1, 14 (INT0)PD2, 15 (INT1)PD3, 16 PD4, 17 (OC1A)PD5, 18 (WR)PD6, 19 (RD)PD7, 20 XTAL2, 21 XTAL1, 22 GND (power), 23 NC2, 24 (A8)PC0, 25 (A9)PC1, 26 (A10)PC2, 27 (A11)PC3, 28 (A12)PC4, 29 (A13)PC5, 30 (A14)PC6, 31 (A15)PC7, 32 OC1B, 33 ALE, 34 NC1, 35 ICP, 36 (AD7)PA7, 37 (AD6)PA6, 38 (AD5)PA5, 39 (AD4)PA4, 40 (AD3)PA3, 41 (AD2)PA2, 42 (AD1)PA1, 43 (AD0)PA0, 44 VCC (power)

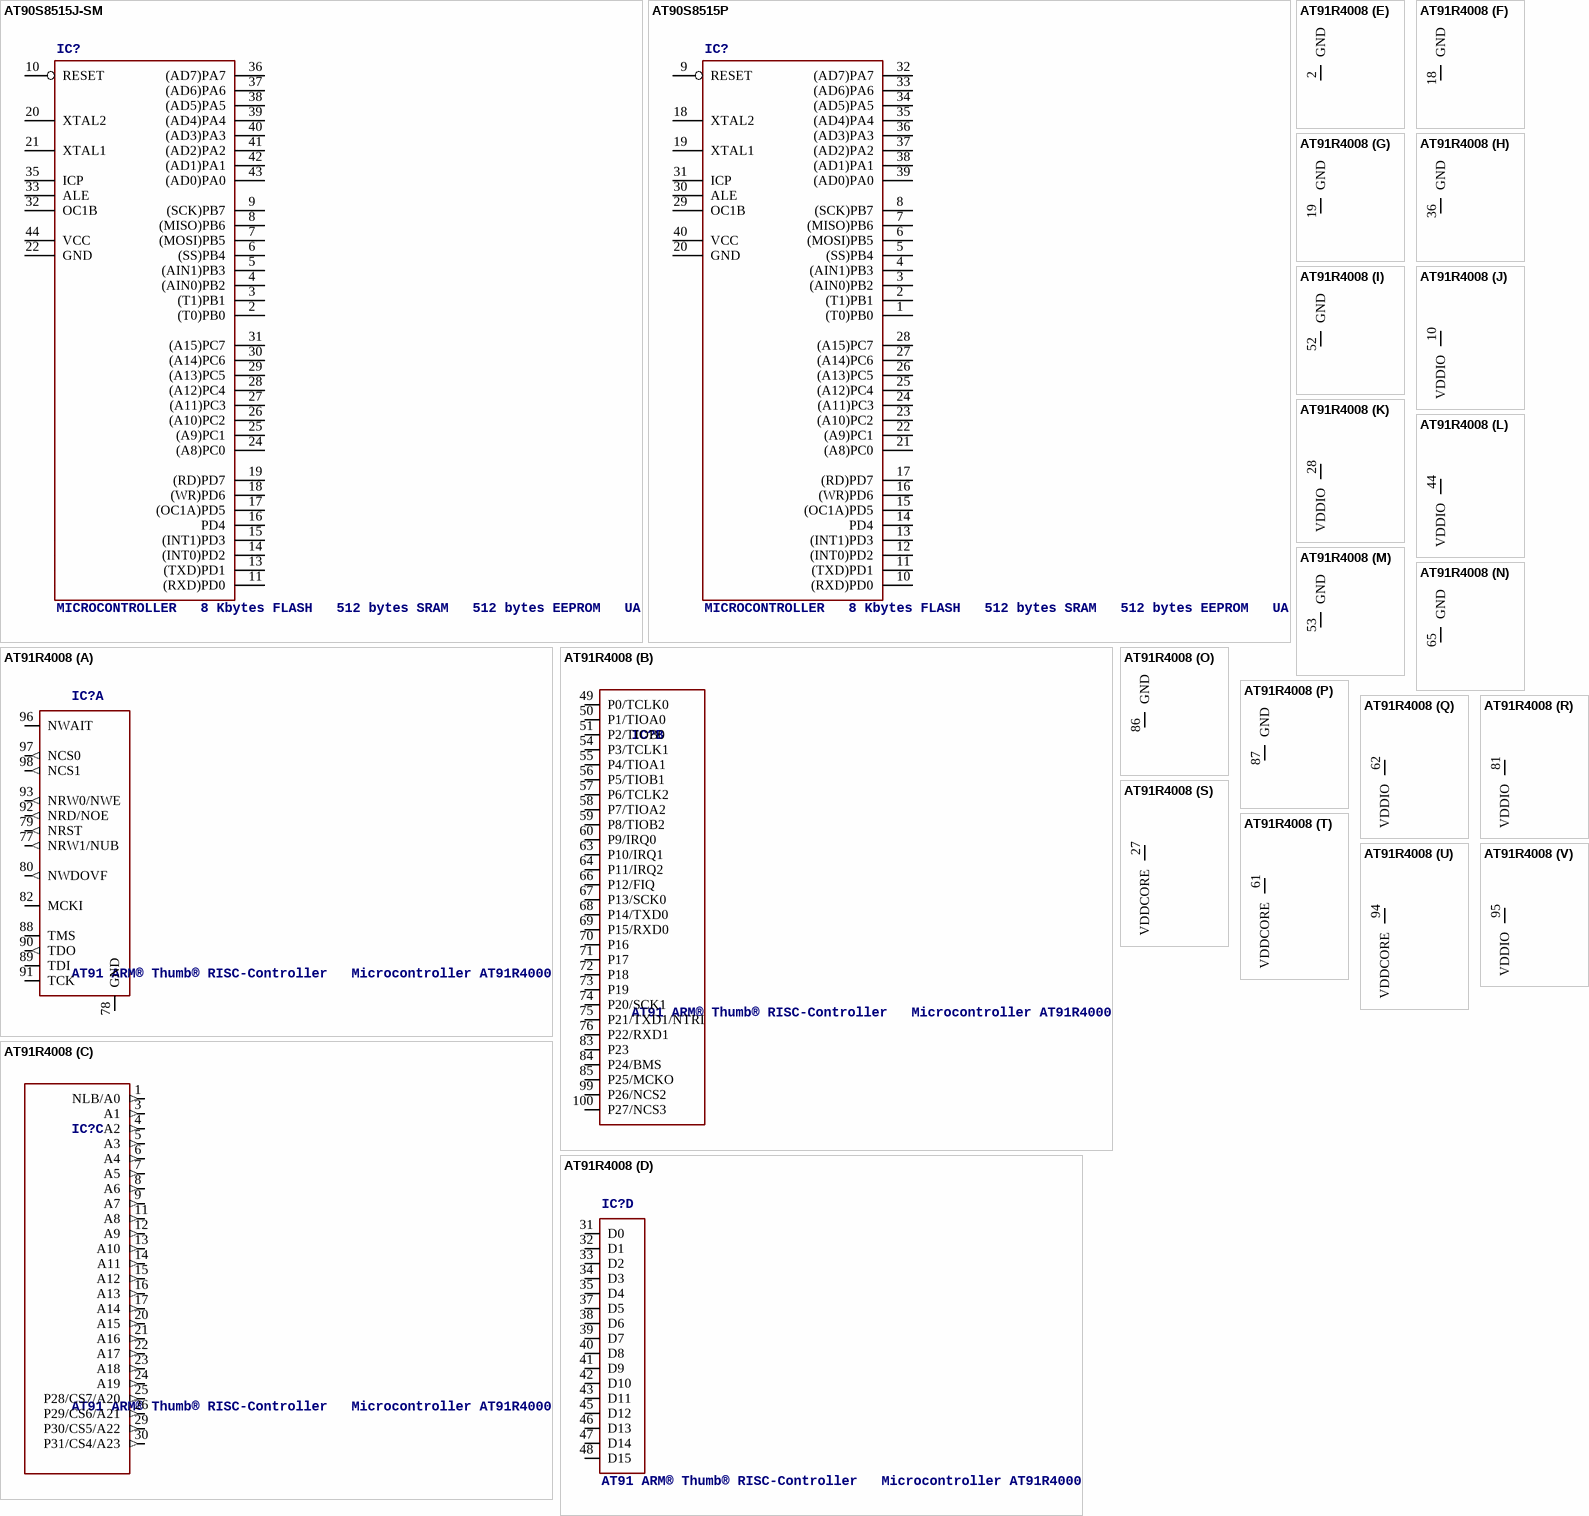
[diagram p13: symbols AT90S8515J-SM to AT91R4008]

## AT90S8515J-SM
designator IC?, comment MICROCONTROLLER   8 Kbytes FLASH   512 bytes SRAM   512 bytes EEPROM   UART
OC_FARNELL: unknown; OC_NEWARK: unknown
footprint PLCC-SM44
pins: 1 NC4, 2 (T0)PB0, 3 (T1)PB1, 4 (AIN0)PB2, 5 (AIN1)PB3, 6 (SS)PB4, 7 (MOSI)PB5, 8 (MISO)PB6, 9 (SCK)PB7, 10 RESET, 11 (RXD)PD0, 12 NC3, 13 (TXD)PD1, 14 (INT0)PD2, 15 (INT1)PD3, 16 PD4, 17 (OC1A)PD5, 18 (WR)PD6, 19 (RD)PD7, 20 XTAL2, 21 XTAL1, 22 GND (power), 23 NC2, 24 (A8)PC0, 25 (A9)PC1, 26 (A10)PC2, 27 (A11)PC3, 28 (A12)PC4, 29 (A13)PC5, 30 (A14)PC6, 31 (A15)PC7, 32 OC1B, 33 ALE, 34 NC1, 35 ICP, 36 (AD7)PA7, 37 (AD6)PA6, 38 (AD5)PA5, 39 (AD4)PA4, 40 (AD3)PA3, 41 (AD2)PA2, 42 (AD1)PA1, 43 (AD0)PA0, 44 VCC (power)

## AT90S8515P
designator IC?, comment MICROCONTROLLER   8 Kbytes FLASH   512 bytes SRAM   512 bytes EEPROM   UART
OC_FARNELL: unknown; OC_NEWARK: unknown
footprint DIL40
pins: 1 (T0)PB0, 2 (T1)PB1, 3 (AIN0)PB2, 4 (AIN1)PB3, 5 (SS)PB4, 6 (MOSI)PB5, 7 (MISO)PB6, 8 (SCK)PB7, 9 RESET, 10 (RXD)PD0, 11 (TXD)PD1, 12 (INT0)PD2, 13 (INT1)PD3, 14 PD4, 15 (OC1A)PD5, 16 (WR)PD6, 17 (RD)PD7, 18 XTAL2, 19 XTAL1, 20 GND (power), 21 (A8)PC0, 22 (A9)PC1, 23 (A10)PC2, 24 (A11)PC3, 25 (A12)PC4, 26 (A13)PC5, 27 (A14)PC6, 28 (A15)PC7, 29 OC1B, 30 ALE, 31 ICP, 32 (AD7)PA7, 33 (AD6)PA6, 34 (AD5)PA5, 35 (AD4)PA4, 36 (AD3)PA3, 37 (AD2)PA2, 38 (AD1)PA1, 39 (AD0)PA0, 40 VCC (power)

## AT91R4008
designator IC?, comment AT91 ARM® Thumb® RISC-Controller   Microcontroller AT91R40008
OC_FARNELL: unknown; OC_NEWARK: unknown
footprint TQFP100
part A pins: 77 NRW1/NUB (out), 78 GND (power), 79 NRST (out), 80 NWDOVF (out), 82 MCKI, 88 TMS, 89 TDI, 90 TDO (out), 91 TCK, 92 NRD/NOE (out), 93 NRW0/NWE (out), 96 NWAIT, 97 NCS0 (out), 98 NCS1 (out)
part B pins: 49 P0/TCLK0, 50 P1/TIOA0, 51 P2/TIOB0, 54 P3/TCLK1, 55 P4/TIOA1, 56 P5/TIOB1, 57 P6/TCLK2, 58 P7/TIOA2, 59 P8/TIOB2, 60 P9/IRQ0, 63 P10/IRQ1, 64 P11/IRQ2, 66 P12/FIQ, 67 P13/SCK0, 68 P14/TXD0, 69 P15/RXD0, 70 P16, 71 P17, 72 P18, 73 P19, 74 P20/SCK1, 75 P21/TXD1/NTRI, 76 P22/RXD1, 83 P23, 84 P24/BMS, 85 P25/MCKO, 99 P26/NCS2, 100 P27/NCS3
part C pins: 1 NLB/A0 (out), 3 A1 (out), 4 A2 (out), 5 A3 (out), 6 A4 (out), 7 A5 (out), 8 A6 (out), 9 A7 (out), 11 A8 (out), 12 A9 (out), 13 A10 (out), 14 A11 (out), 15 A12 (out), 16 A13 (out), 17 A14 (out), 20 A15 (out), 21 A16 (out), 22 A17 (out), 23 A18 (out), 24 A19 (out), 25 P28/CS7/A20 (out), 26 P29/CS6/A21 (out), 29 P30/CS5/A22 (out), 30 P31/CS4/A23 (out)
part D pins: 31 D0 (hiz), 32 D1 (hiz), 33 D2 (hiz), 34 D3 (hiz), 35 D4 (hiz), 37 D5 (hiz), 38 D6 (hiz), 39 D7 (hiz), 40 D8 (hiz), 41 D9 (hiz), 42 D10 (hiz), 43 D11 (hiz), 45 D12 (hiz), 46 D13 (hiz), 47 D14 (hiz), 48 D15 (hiz)
part E pins: 2 GND (power)
part F pins: 18 GND (power)
part G pins: 19 GND (power)
part H pins: 36 GND (power)
part I pins: 52 GND (power)
part J pins: 10 VDDIO (power)
part K pins: 28 VDDIO (power)
part L pins: 44 VDDIO (power)
part M pins: 53 GND (power)
part N pins: 65 GND (power)
part O pins: 86 GND (power)
part P pins: 87 GND (power)
part Q pins: 62 VDDIO (power)
part R pins: 81 VDDIO (power)
part S pins: 27 VDDCORE (power)
part T pins: 61 VDDCORE (power)
part U pins: 94 VDDCORE (power)
part V pins: 95 VDDIO (power)

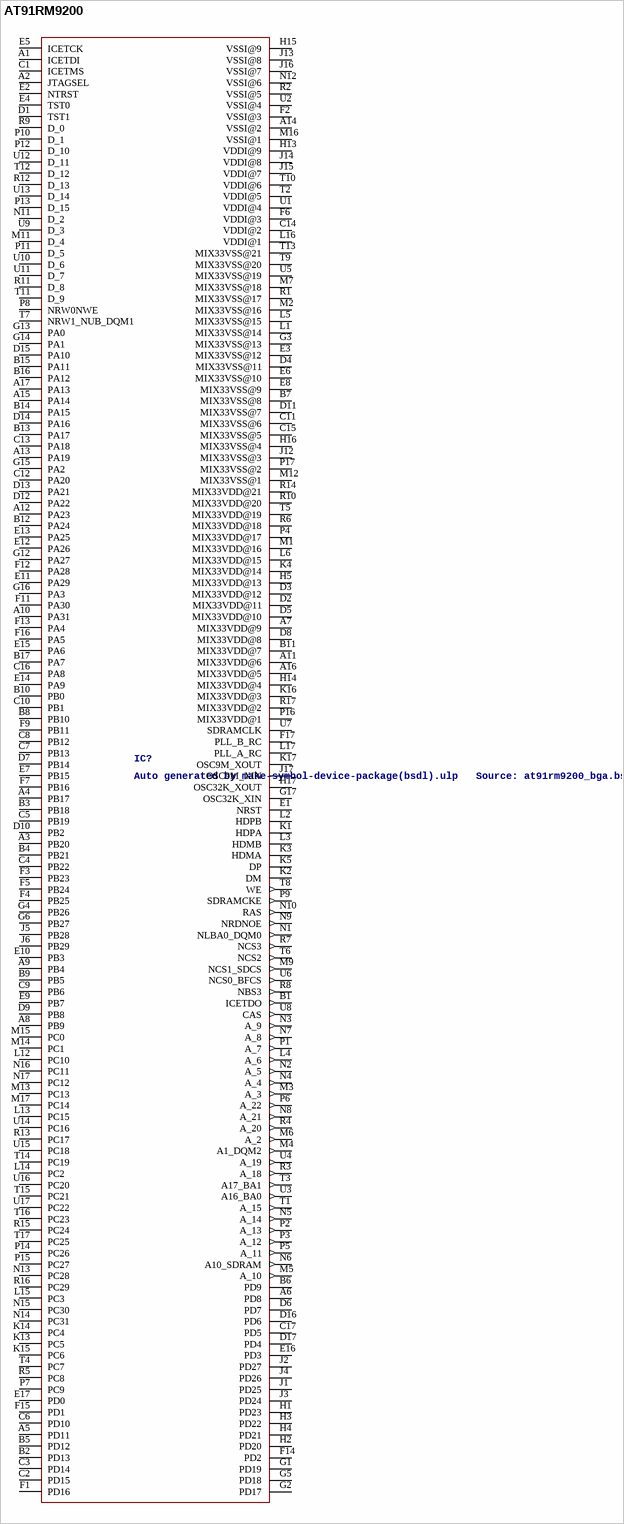
[diagram p14: symbol AT91RM9200]

## AT91RM9200
designator IC?, comment Auto generated by make-symbol-device-package(bsdl).ulp   Source: at91rm9200_bga.bsd
MPN: AT91RM9200-EK; OC_FARNELL: 1629536; OC_NEWARK: 02P6234
footprint LFBGA256_A_291X326
pins: A1 ICETDI, A2 JTAGSEL, A3 PB20, A4 PB17, A5 PD11, A6 PD8, A7 MIX33VDD@9 (power), A8 PB9, A9 PB4, A10 PA31, A11 MIX33VDD@6 (power), A12 PA23, A13 PA19, A14 VSSI@2 (power), A15 PA14, A16 MIX33VDD@5 (power), A17 PA13, B1 ICETDO (out), B2 PD13, B3 PB18, B4 PB21, B5 PD12, B6 PD9, B7 MIX33VSS@8 (power), B8 PB10, B9 PB5, B10 PB0, B11 MIX33VDD@7 (power), B12 PA24, B13 PA17, B14 PA15, B15 PA11, B16 PA12, B17 PA7, C1 ICETMS, C2 PD15, C3 PD14, C4 PB22, C5 PB19, C6 PD10, C7 PB13, C8 PB12, C9 PB6, C10 PB1, C11 MIX33VSS@6 (power), C12 PA20, C13 PA18, C14 VDDI@2 (power), C15 MIX33VSS@5 (power), C16 PA8, C17 PD5, D1 TST1, D2 MIX33VDD@11 (power), D3 MIX33VDD@12 (power), D4 MIX33VSS@11 (power), D5 MIX33VDD@10 (power), D6 PD7, D7 PB14, D8 MIX33VDD@8 (power), D9 PB8, D10 PB2, D11 MIX33VSS@7 (power), D12 PA22, D13 PA21, D14 PA16, D15 PA10, D16 PD6, D17 PD4, E1 NRST (power), E2 NTRST, E3 MIX33VSS@12 (power), E4 TST0, E5 ICETCK, E6 MIX33VSS@10 (power), E7 PB15, E8 MIX33VSS@9 (power), E9 PB7, E10 PB3, E11 PA29, E12 PA26, E13 PA25, E14 PA9, E15 PA6, E16 PD3, E17 PD0, F1 PD16, F2 VSSI@3 (power), F3 PB23, F4 PB25, F5 PB24, F6 VDDI@3 (power), F7 PB16, F9 PB11, F11 PA30, F12 PA28, F13 PA4, F14 PD2, F15 PD1, F16 PA5, F17 PLL_B_RC (power), G1 PD19, G2 PD17, G3 MIX33VSS@13 (power), G4 PB26, G5 PD18, G6 PB27, G12 PA27, G13 PA0, G14 PA1, G15 PA2, G16 PA3, G17 OSC32K_XIN (power), H1 PD23, H2 PD20, H3 PD22, H4 PD21, H5 MIX33VDD@13 (power), H13 VDDI@9 (power), H14 MIX33VDD@4 (power), H15 VSSI@9 (power), H16 MIX33VSS@4 (power), H17 OSC32K_XOUT (power), J1 PD25, J2 PD27, J3 PD24, J4 PD26, J5 PB28, J6 PB29, J12 MIX33VSS@3 (power), J13 VSSI@8 (power), J14 VDDI@8 (power), J15 VDDI@7 (power), J16 VSSI@7 (power), J17 OSC9M_XIN (power), K1 HDPA (power), K2 DM (power), K3 HDMA (power), K4 MIX33VDD@14 (power), K5 DP (power), K13 PC5, K14 PC4, K15 PC6, K16 MIX33VDD@3 (power), K17 OSC9M_XOUT (power), L1 MIX33VSS@14 (power), L2 HDPB (power), L3 HDMB (power), L4 A_6 (out), L5 MIX33VSS@15 (power), L6 MIX33VDD@15 (power), L12 PC10, L13 PC15, L14 PC2, L15 PC3, L16 VDDI@1 (power), L17 PLL_A_RC (power), M1 MIX33VDD@16 (power), M2 MIX33VSS@16 (power), M3 A_3 (out), M4 A1_DQM2 (out), M5 A_10 (out), M6 A_2 (out), M7 MIX33VSS@18 (power), M9 NCS1_SDCS (out), M11 D_4, M12 MIX33VSS@1 (power), M13 PC13, M14 PC1, M15 PC0, M16 VSSI@1 (power), M17 PC14, N1 NLBA0_DQM0 (out), N2 A_5 (out), N3 A_9 (out), N4 A_4 (out), N5 A_14 (out), N6 A10_SDRAM (out), N7 A_8 (out), N8 A_21 (out), N9 NRDNOE (out), N10 RAS (out), N11 D_2, N12 VSSI@6 (power), N13 PC28, N14 PC31, N15 PC30, N16 PC11, N17 PC12, P1 A_7 (out), P2 A_13 (out), P3 A_12 (out), P4 MIX33VDD@17 (power), P5 A_11 (out), P6 A_22 (out), P7 PC9, P8 NRW0NWE, P9 SDRAMCKE (out), P10 D_1, P11 D_5, P12 D_10, P13 D_15, P14 PC26, P15 PC27, P16 MIX33VDD@1 (power), P17 MIX33VSS@2 (power), R1 MIX33VSS@17 (power), R2 VSSI@5 (power), R3 A_18 (out), R4 A_20 (out), R5 PC8, R6 MIX33VDD@18 (power), R7 NCS3 (out), R8 NBS3 (out), R9 D_0, R10 MIX33VDD@20 (power), R11 D_8, R12 D_13, R13 PC17, R14 MIX33VDD@21 (power), R15 PC24, R16 PC29, R17 MIX33VDD@2 (power), T1 A_15 (out), T2 VDDI@5 (power), T3 A17_BA1 (out), T4 PC7, T5 MIX33VDD@19 (power), T6 NCS2 (out), T7 NRW1_NUB_DQM1, T8 WE (out), T9 MIX33VSS@20 (power), T10 VDDI@6 (power), T11 D_9, T12 D_12, T13 MIX33VSS@21 (power), T14 PC19, T15 PC21, T16 PC23, T17 PC25, U1 VDDI@4 (power), U2 VSSI@4 (power), U3 A16_BA0 (out), U4 A_19 (out), U5 MIX33VSS@19 (power), U6 NCS0_BFCS (out), U7 SDRAMCLK (power), U8 CAS (out), U9 D_3, U10 D_6, U11 D_7, U12 D_11, U13 D_14, U14 PC16, U15 PC18, U16 PC20, U17 PC22

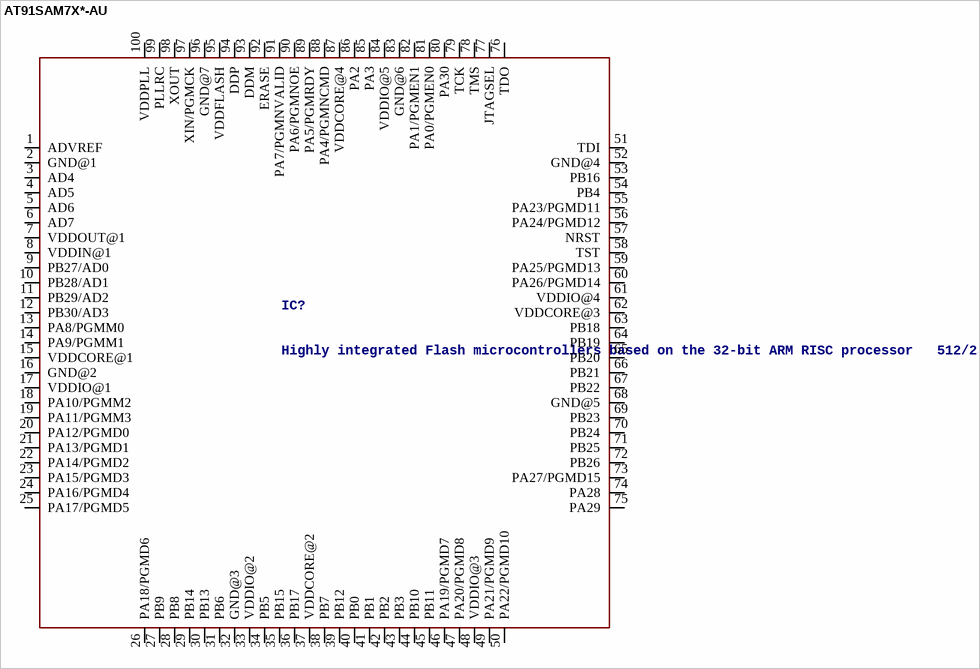
[diagram p15: symbol AT91SAM7X*-AU]